# Altium schematic symbol library 原理图.SchLib: 99 symbols
Pins are listed as number, name and electrical type; pins without a type are passive.

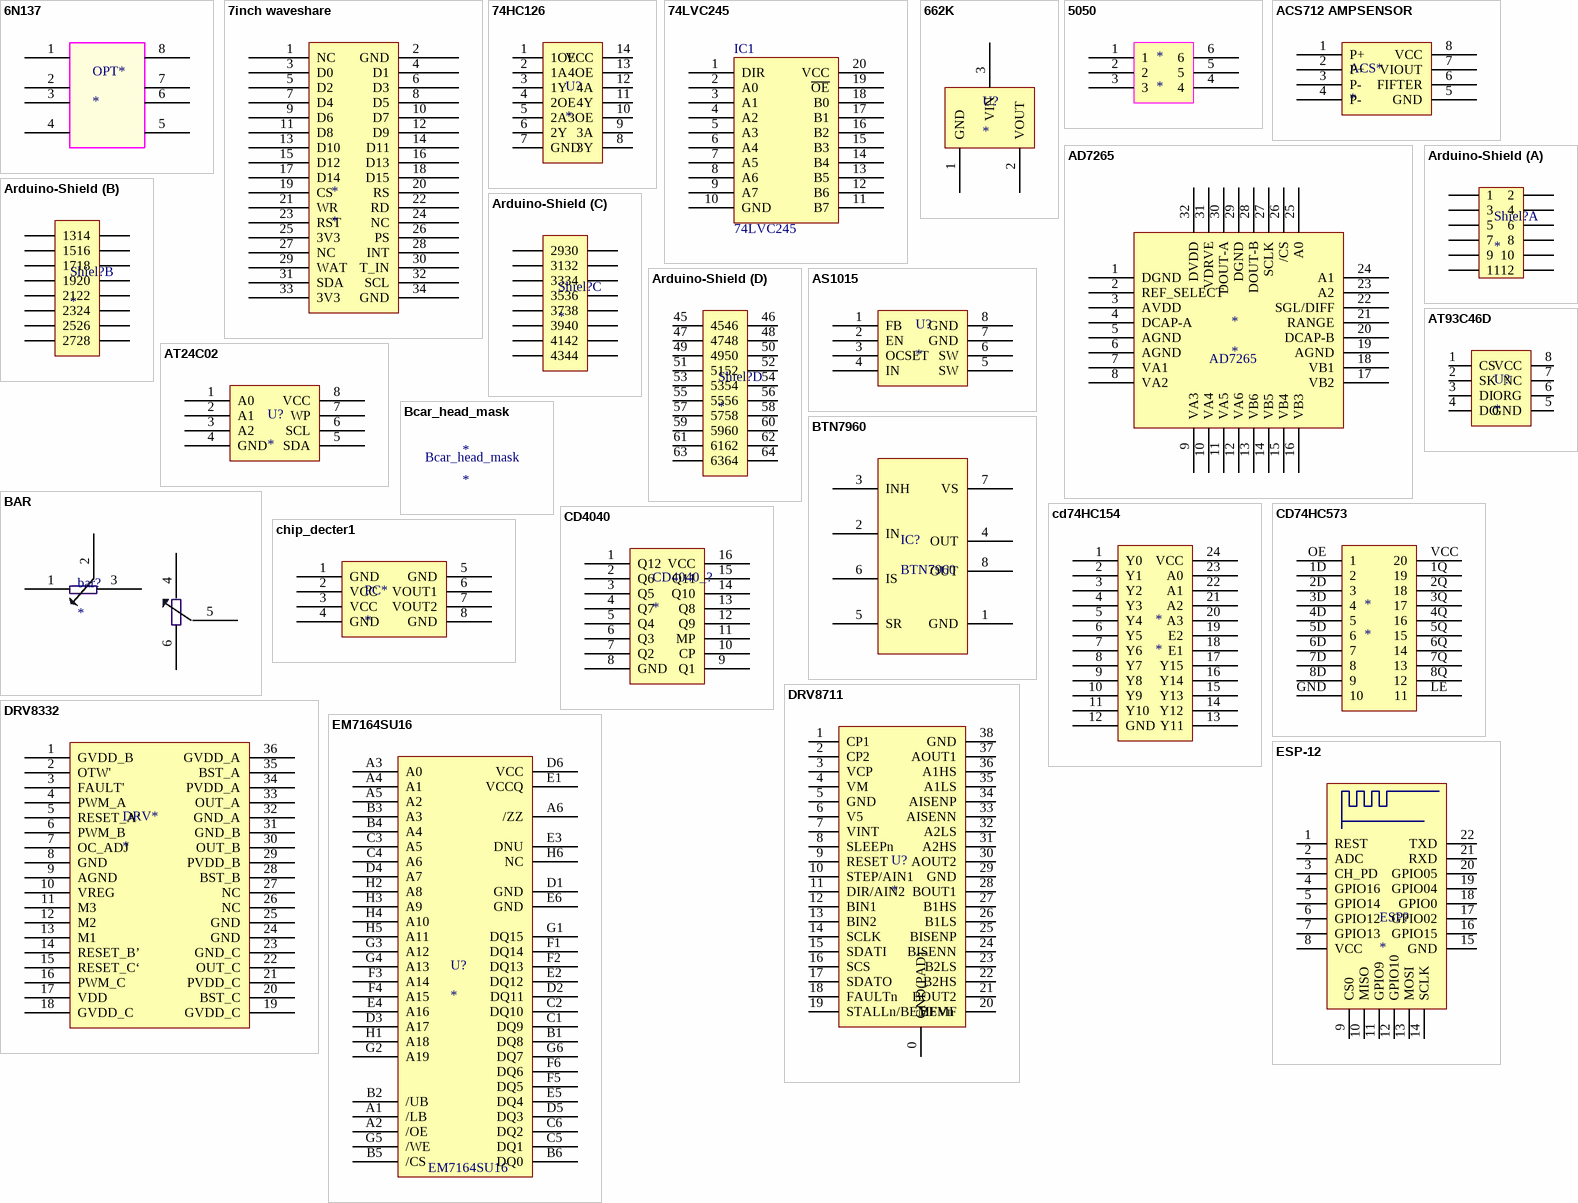
[diagram p0: symbols 6N137 to ESP-12]

## 6N137
designator OPT*
footprint SOIC1-8N ACS712
pins: 1 NC, 2 ANODE, 3 CATHODE, 4 NC, 5 GND, 6 V0, 7 VE, 8 VCC

## 7inch waveshare
designator *
footprint 7 inch waveshare
pins: 1 NC, 2 GND, 3 D0, 4 D1, 5 D2, 6 D3, 7 D4, 8 D5, 9 D6, 10 D7, 11 D8, 12 D9, 13 D10, 14 D11, 15 D12, 16 D13, 17 D14, 18 D15, 19 CS, 20 RS, 21 WR, 22 RD, 23 RST, 24 NC, 25 3V3 (power), 26 PS, 27 NC, 28 INT, 29 WAT, 30 T_IN, 31 SDA, 32 SCL, 33 3V3 (power), 34 GND

## 74HC126
designator U?
footprint SOP127P600-8N 74HC126
pins: 1 1OE, 2 1A, 3 1Y, 4 2OE, 5 2A, 6 2Y, 7 GND, 8 3Y, 9 3A, 10 3OE, 11 4Y, 12 4A, 13 4OE, 14 VCC

## 74LVC245
designator IC1
footprint 74LVC245 TSSOP
footprint SOIC 20N (SOIC, 20-Leads, Body 12.80x7.50mm, Pitch 1.27mm, IPC Medium Density)
pins: 1 DIR, 2 A0, 3 A1, 4 A2, 5 A3, 6 A4, 7 A5, 8 A6, 9 A7, 10 GND, 11 B7, 12 B6, 13 B5, 14 B4, 15 B3, 16 B2, 17 B1, 18 B0, 19 ~{OE}, 20 VCC

## 662K
designator U?
footprint SOT23127P600-8N 662K
pins: 1 GND, 2 VOUT, 3 VIN

## 5050
designator *
footprint 5050
pins: 1, 2, 3, 4, 5, 6

## ACS712 AMPSENSOR
designator ACS*
footprint SOIC1-8N ACS712
pins: 1 P+, 2 P+, 3 P-, 4 P-, 5 GND, 6 FIFTER, 7 VIOUT, 8 VCC

## AD7265
designator *
pins: 1 DGND, 2 REF_SELECT, 3 AVDD, 4 DCAP-A, 5 AGND, 6 AGND, 7 VA1, 8 VA2, 9 VA3, 10 VA4, 11 VA5, 12 VA6, 13 VB6, 14 VB5, 15 VB4, 16 VB3, 17 VB2, 18 VB1, 19 AGND, 20 DCAP-B, 21 RANGE, 22 SGL/DIFF, 23 A2, 24 A1, 25 A0, 26 /CS, 27 SCLK, 28 DOUT-B, 29 DGND, 30 DOUT-A, 31 VDRVE, 32 DVDD

## Arduino-Shield
designator Shiel?
footprint SMT-B-Shield
footprint Arduino-Shield
part A pins: 1, 2, 3, 4, 5, 6, 7, 8, 9, 10, 11, 12
part B pins: 13, 14, 15, 16, 17, 18, 19, 20, 21, 22, 23, 24, 25, 26, 27, 28
part C pins: 29, 30, 31, 32, 33, 34, 35, 36, 37, 38, 39, 40, 41, 42, 43, 44
part D pins: 45, 46, 47, 48, 49, 50, 51, 52, 53, 54, 55, 56, 57, 58, 59, 60, 61, 62, 63, 64

## AS1015
designator U?
footprint SOIC-8 (IOS1540\1)
pins: 1 FB, 2 EN, 3 OCSET, 4 IN, 5 SW, 6 SW, 7 GND, 8 GND

## AT24C02
designator U?
footprint IR2104
pins: 1 A0, 2 A1, 3 A2, 4 GND, 5 SDA, 6 SCL, 7 WP, 8 VCC

## AT93C46D
designator U?
footprint TSOP65P640X120-8N-AT93C46D (TSOP, 8-Leads, Body 3.00x4.40mm, Pitch 0.65mm, IPC Medium Density)
pins: 1 CS, 2 SK, 3 DI, 4 DO, 5 GND, 6 ORG, 7 NC, 8 VCC

## BAR
designator bar?
footprint bar
pins: 1, 2, 3, 4, 5, 6

## Bcar_head_mask
designator *
footprint Bcar_head_mask

## BTN7960
designator IC?
pins: 1 GND, 2 IN, 3 INH, 4 OUT, 5 SR, 6 IS, 7 VS, 8 OUT

## cd74HC154
designator *
footprint cd74hc154
pins: 1 Y0, 2 Y1, 3 Y2, 4 Y3, 5 Y4, 6 Y5, 7 Y6, 8 Y7, 9 Y8, 10 Y9, 11 Y10, 12 GND, 13 Y11, 14 Y12, 15 Y13, 16 Y14, 17 Y15, 18 E1, 19 E2, 20 A3, 21 A2, 22 A1, 23 A0, 24 VCC

## CD74HC573
designator *
footprint cd74hc573; pin to pad 1D>2 1Q>19 2D>3 2Q>18 3D>4 3Q>17 4D>5 4Q>16 5D>6 5Q>15 6D>7 6Q>14 7D>8 7Q>13 8D>9 8Q>12 GND>10 LE>11 OE>1 VCC>20
pins: 1D 2, 1Q 19, 2D 3, 2Q 18, 3D 4, 3Q 17, 4D 5, 4Q 16, 5D 6, 5Q 15, 6D 7, 6Q 14, 7D 8, 7Q 13, 8D 9, 8Q 12, GND 10, LE 11, OE 1, VCC 20

## CD4040
designator CD4040_?
footprint SOIC-16
pins: 1 Q12, 2 Q6, 3 Q5, 4 Q7, 5 Q4, 6 Q3, 7 Q2, 8 GND, 9 Q1, 10 CP, 11 MP, 12 Q9, 13 Q8, 14 Q10, 15 Q11, 16 VCC

## chip_decter1
designator PC*
chips
footprint chip_detecter
pins: 1 GND, 2 VCC, 3 VCC, 4 GND, 5 GND, 6 VOUT1, 7 VOUT2, 8 GND

## DRV8332
designator DRV*
footprint SOP127P600-8N-DRV8332 (DRV8332)
pins: 1 GVDD_B, 2 OTW', 3 FAULT', 4 PWM_A, 5 RESET_A‘, 6 PWM_B, 7 OC_ADJ, 8 GND, 9 AGND, 10 VREG, 11 M3, 12 M2, 13 M1, 14 RESET_B’, 15 RESET_C‘, 16 PWM_C, 17 VDD, 18 GVDD_C, 19 GVDD_C, 20 BST_C, 21 PVDD_C, 22 OUT_C, 23 GND_C, 24 GND, 25 GND, 26 NC, 27 NC, 28 BST_B, 29 PVDD_B, 30 OUT_B, 31 GND_B, 32 GND_A, 33 OUT_A, 34 PVDD_A, 35 BST_A, 36 GVDD_A

## DRV8711
designator U?
footprint LC-HTSSOP-38
pins: 0 GND(PAD), 1 CP1, 2 CP2, 3 VCP, 4 VM, 5 GND, 6 V5, 7 VINT, 8 SLEEPn, 9 RESET, 10 STEP/AIN1, 11 DIR/AIN2, 12 BIN1, 13 BIN2, 14 SCLK, 15 SDATI, 16 SCS, 17 SDATO, 18 FAULTn, 19 STALLn/BEMFVn, 20 BEMF, 21 BOUT2, 22 B2HS, 23 B2LS, 24 BISENN, 25 BISENP, 26 B1LS, 27 B1HS, 28 BOUT1, 29 GND, 30 AOUT2, 31 A2HS, 32 A2LS, 33 AISENN, 34 AISENP, 35 A1LS, 36 A1HS, 37 AOUT1, 38 GND

## EM7164SU16
designator U?
footprint BGA48C75P6X8_598X698X104 (BGA, 48-Leads, Body 5.98x6.98mmx1.04mm, Pitch 0.75mm)
pins: A1 /LB, A2 /OE, A3 A0, A4 A1, A5 A2, A6 /ZZ, B1 DQ8, B2 /UB, B3 A3, B4 A4, B5 /CS, B6 DQ0, C1 DQ9, C2 DQ10, C3 A5, C4 A6, C5 DQ1, C6 DQ2, D1 GND, D2 DQ11, D3 A17, D4 A7, D5 DQ3, D6 VCC, E1 VCCQ, E2 DQ12, E3 DNU, E4 A16, E5 DQ4, E6 GND, F1 DQ14, F2 DQ13, F3 A14, F4 A15, F5 DQ5, F6 DQ6, G1 DQ15, G2 A19, G3 A12, G4 A13, G5 /WE, G6 DQ7, H1 A18, H2 A8, H3 A9, H4 A10, H5 A11, H6 NC

## ESP-12
designator ESP?
footprint ESP-12
pins: 1 REST, 2 ADC, 3 CH_PD, 4 GPIO16, 5 GPIO14, 6 GPIO12, 7 GPIO13, 8 VCC, 9 CS0, 10 MISO, 11 GPIO9, 12 GPIO10, 13 MOSI, 14 SCLK, 15 GND, 16 GPIO15, 17 GPIO02, 18 GPIO0, 19 GPIO04, 20 GPIO05, 21 RXD, 22 TXD

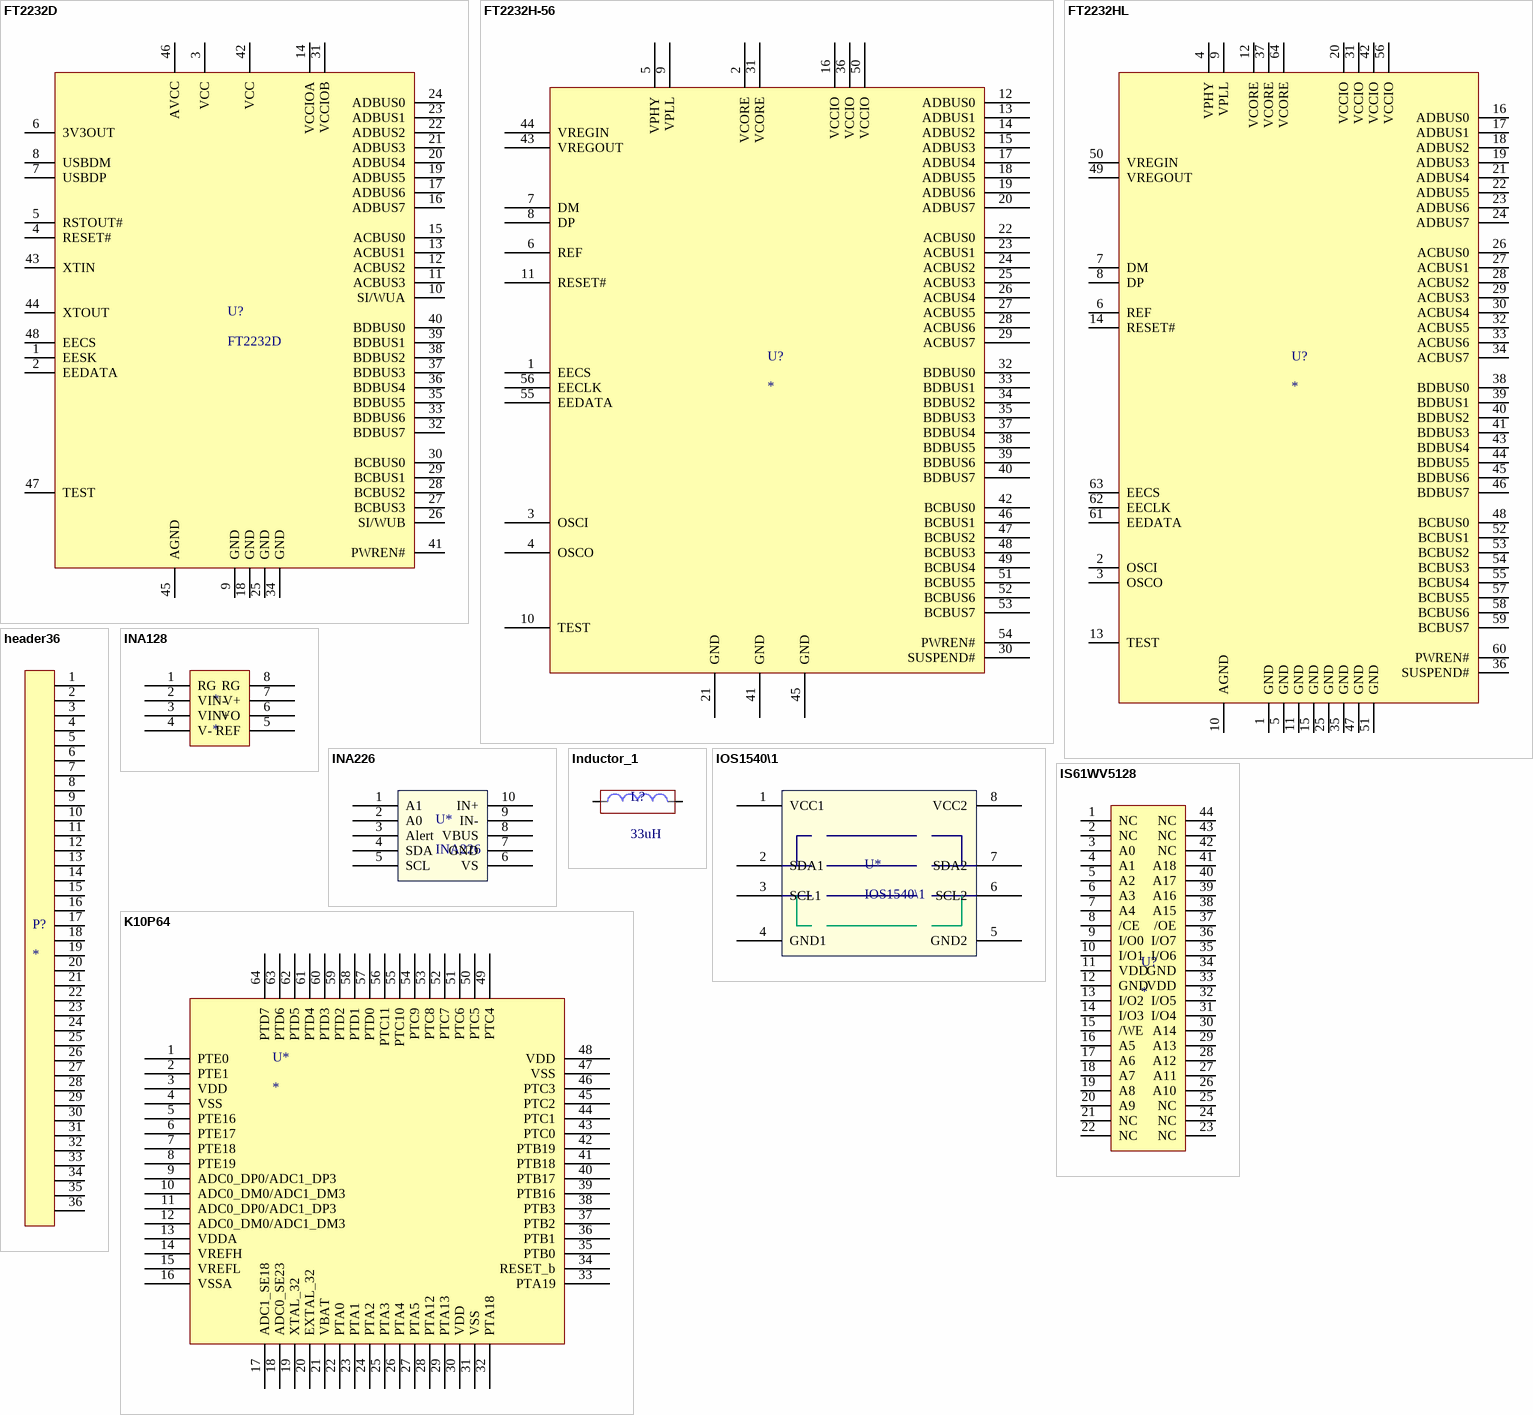
[diagram p1: symbols FT2232D to K10P64]

## FT2232D
designator U?
footprint TSQFP50P900X900X160-48N (TSQFP, 48-Leads,FTDI FT2232D)
pins: 1 EESK, 2 EEDATA, 3 VCC, 4 RESET#, 5 RSTOUT#, 6 3V3OUT, 7 USBDP, 8 USBDM, 9 GND, 10 SI/WUA, 11 ACBUS3, 12 ACBUS2, 13 ACBUS1, 14 VCCIOA, 15 ACBUS0, 16 ADBUS7, 17 ADBUS6, 18 GND, 19 ADBUS5, 20 ADBUS4, 21 ADBUS3, 22 ADBUS2, 23 ADBUS1, 24 ADBUS0, 25 GND, 26 SI/WUB, 27 BCBUS3, 28 BCBUS2, 29 BCBUS1, 30 BCBUS0, 31 VCCIOB, 32 BDBUS7, 33 BDBUS6, 34 GND, 35 BDBUS5, 36 BDBUS4, 37 BDBUS3, 38 BDBUS2, 39 BDBUS1, 40 BDBUS0, 41 PWREN#, 42 VCC, 43 XTIN, 44 XTOUT, 45 AGND, 46 AVCC, 47 TEST, 48 EECS

## FT2232H-56
designator U?
footprint QFN50P800X800X90_HS-57N (QFN, 56-Leads, Body 8.00x8.00mm, Pitch 0.50mm, Thermal Pad 6.10x6.10mm, IPC Medium Density)
pins: 1 EECS, 2 VCORE, 3 OSCI, 4 OSCO, 5 VPHY, 6 REF, 7 DM, 8 DP, 9 VPLL, 10 TEST, 11 RESET#, 12 ADBUS0, 13 ADBUS1, 14 ADBUS2, 15 ADBUS3, 16 VCCIO, 17 ADBUS4, 18 ADBUS5, 19 ADBUS6, 20 ADBUS7, 21 GND, 22 ACBUS0, 23 ACBUS1, 24 ACBUS2, 25 ACBUS3, 26 ACBUS4, 27 ACBUS5, 28 ACBUS6, 29 ACBUS7, 30 SUSPEND#, 31 VCORE, 32 BDBUS0, 33 BDBUS1, 34 BDBUS2, 35 BDBUS3, 36 VCCIO, 37 BDBUS4, 38 BDBUS5, 39 BDBUS6, 40 BDBUS7, 41 GND, 42 BCBUS0, 43 VREGOUT, 44 VREGIN, 45 GND, 46 BCBUS1, 47 BCBUS2, 48 BCBUS3, 49 BCBUS4, 50 VCCIO, 51 BCBUS5, 52 BCBUS6, 53 BCBUS7, 54 PWREN#, 55 EEDATA, 56 EECLK

## FT2232HL
designator U?
footprint LQFP-64 (TSQFP, 64-Leads, K10P64M72)
pins: 1 GND, 2 OSCI, 3 OSCO, 4 VPHY, 5 GND, 6 REF, 7 DM, 8 DP, 9 VPLL, 10 AGND, 11 GND, 12 VCORE, 13 TEST, 14 RESET#, 15 GND, 16 ADBUS0, 17 ADBUS1, 18 ADBUS2, 19 ADBUS3, 20 VCCIO, 21 ADBUS4, 22 ADBUS5, 23 ADBUS6, 24 ADBUS7, 25 GND, 26 ACBUS0, 27 ACBUS1, 28 ACBUS2, 29 ACBUS3, 30 ACBUS4, 31 VCCIO, 32 ACBUS5, 33 ACBUS6, 34 ACBUS7, 35 GND, 36 SUSPEND#, 37 VCORE, 38 BDBUS0, 39 BDBUS1, 40 BDBUS2, 41 BDBUS3, 42 VCCIO, 43 BDBUS4, 44 BDBUS5, 45 BDBUS6, 46 BDBUS7, 47 GND, 48 BCBUS0, 49 VREGOUT, 50 VREGIN, 51 GND, 52 BCBUS1, 53 BCBUS2, 54 BCBUS3, 55 BCBUS4, 56 VCCIO, 57 BCBUS5, 58 BCBUS6, 59 BCBUS7, 60 PWREN#, 61 EEDATA, 62 EECLK, 63 EECS, 64 VCORE

## header36
designator P?
footprint FFC/SM0.5-2H36 (Connector; FH12 Series; 36 Position; 0.5mm Spaced Bottom Contact)
pins: 1, 2, 3, 4, 5, 6, 7, 8, 9, 10, 11, 12, 13, 14, 15, 16, 17, 18, 19, 20, 21, 22, 23, 24, 25, 26, 27, 28, 29, 30, 31, 32, 33, 34, 35, 36

## INA128
designator *
pins: 1 RG, 2 VIN-, 3 VIN+, 4 V-, 5 REF, 6 VO, 7 V+, 8 RG

## INA226
designator U*
footprint VSSOP-10 (INA226)
pins: 1 A1, 2 A0, 3 Alert, 4 SDA, 5 SCL, 6 VS, 7 GND, 8 VBUS, 9 IN-, 10 IN+

## Inductor_1
designator L?, comment 33uH
Inductor
footprint L-SMD-7
pins: 1, 2

## IOS1540\1
designator U*
footprint SOIC-8 (IOS1540\1)
pins: 1 VCC1, 2 SDA1, 3 SCL1, 4 GND1, 5 GND2, 6 SCL2, 7 SDA2, 8 VCC2

## IS61WV5128
designator U?
footprint SOP127P600-8N IS61WV5128 (IS61WV5128)
pins: 1 NC, 2 NC, 3 A0, 4 A1, 5 A2, 6 A3, 7 A4, 8 /CE, 9 I/O0, 10 I/O1, 11 VDD, 12 GND, 13 I/O2, 14 I/O3, 15 /WE, 16 A5, 17 A6, 18 A7, 19 A8, 20 A9, 21 NC, 22 NC, 23 NC, 24 NC, 25 NC, 26 A10, 27 A11, 28 A12, 29 A13, 30 A14, 31 I/O4, 32 I/O5, 33 VDD, 34 GND, 35 I/O6, 36 I/O7, 37 /OE, 38 A15, 39 A16, 40 A17, 41 A18, 42 NC, 43 NC, 44 NC

## K10P64
designator U*
MCU
footprint K10P64M72 LQFP (TSQFP, 64-Leads, K10P64M72)
pins: 1 PTE0, 2 PTE1, 3 VDD, 4 VSS, 5 PTE16, 6 PTE17, 7 PTE18, 8 PTE19, 9 ADC0_DP0/ADC1_DP3, 10 ADC0_DM0/ADC1_DM3, 11 ADC0_DP0/ADC1_DP3, 12 ADC0_DM0/ADC1_DM3, 13 VDDA, 14 VREFH, 15 VREFL, 16 VSSA, 17 ADC1_SE18, 18 ADC0_SE23, 19 XTAL_32, 20 EXTAL_32, 21 VBAT, 22 PTA0, 23 PTA1, 24 PTA2, 25 PTA3, 26 PTA4, 27 PTA5, 28 PTA12, 29 PTA13, 30 VDD, 31 VSS, 32 PTA18, 33 PTA19, 34 RESET_b, 35 PTB0, 36 PTB1, 37 PTB2, 38 PTB3, 39 PTB16, 40 PTB17, 41 PTB18, 42 PTB19, 43 PTC0, 44 PTC1, 45 PTC2, 46 PTC3, 47 VSS, 48 VDD, 49 PTC4, 50 PTC5, 51 PTC6, 52 PTC7, 53 PTC8, 54 PTC9, 55 PTC10, 56 PTC11, 57 PTD0, 58 PTD1, 59 PTD2, 60 PTD3, 61 PTD4, 62 PTD5, 63 PTD6, 64 PTD7

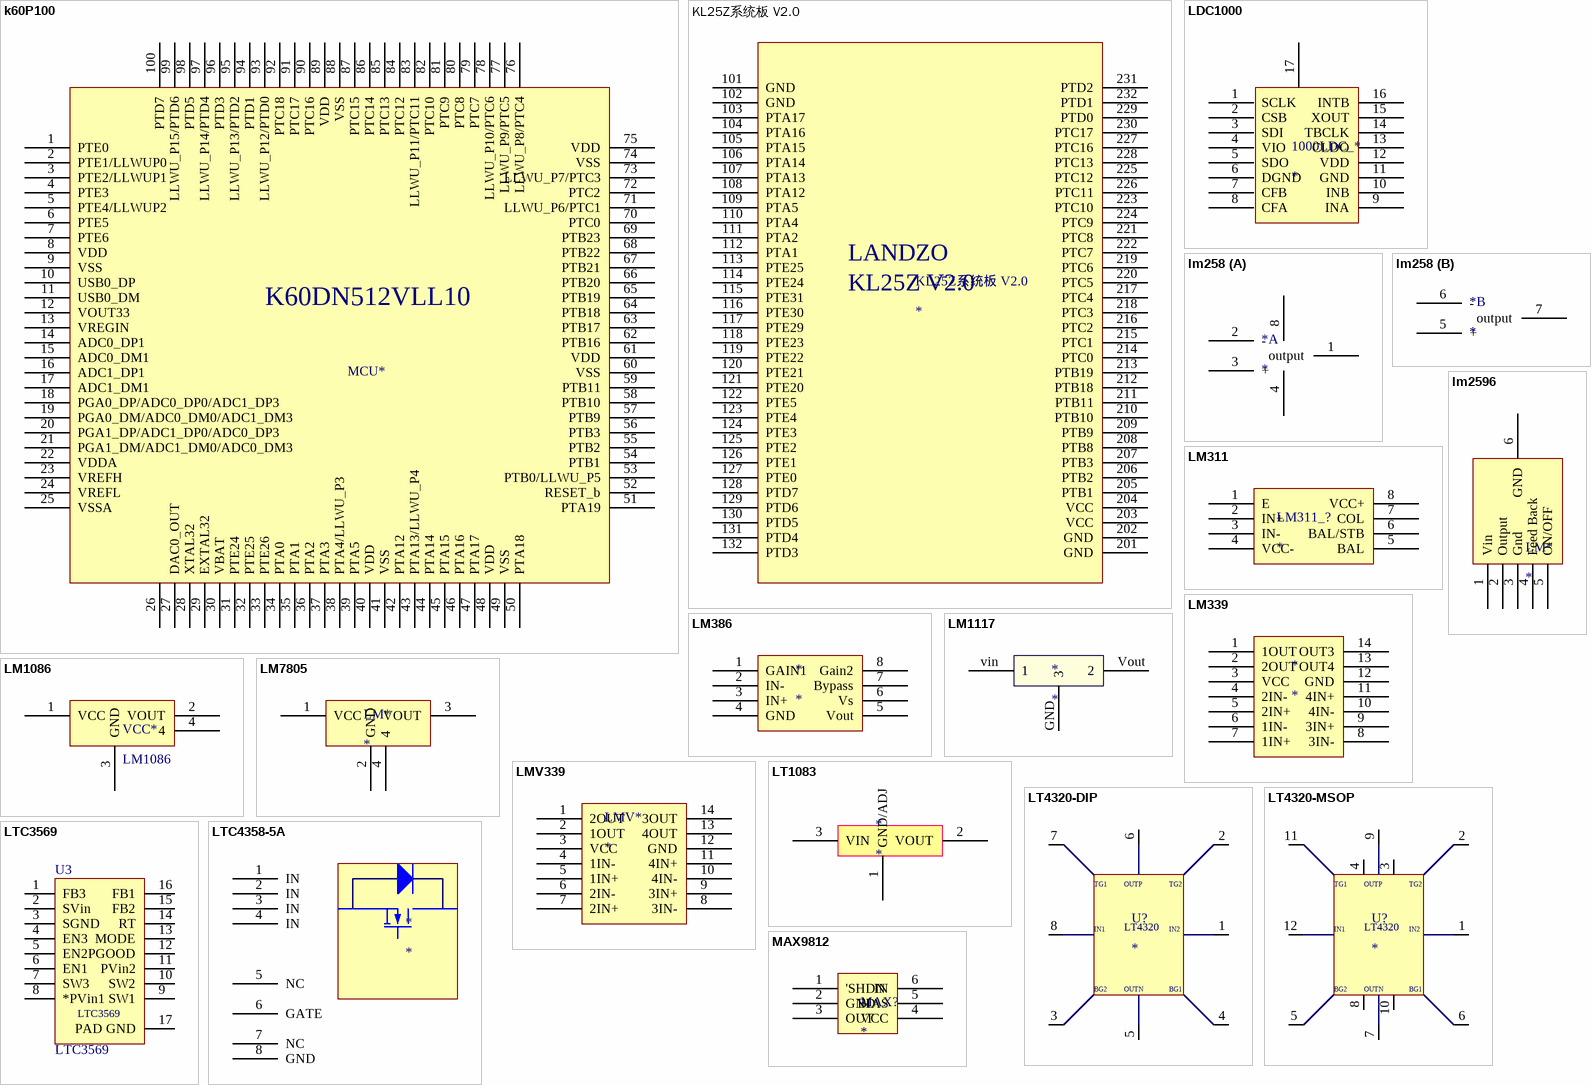
[diagram p2: symbols k60P100 to MAX9812]

## k60P100
designator MCU*  (value not drawn)
footprint LQFP100 (SQFP, 100-Leads, Body 14.00x14.00mm, Pitch 0.50mm, IPC Medium Density)
pins: 1 PTE0, 2 PTE1/LLWUP0, 3 PTE2/LLWUP1, 4 PTE3, 5 PTE4/LLWUP2, 6 PTE5, 7 PTE6, 8 VDD, 9 VSS, 10 USB0_DP, 11 USB0_DM, 12 VOUT33, 13 VREGIN, 14 ADC0_DP1, 15 ADC0_DM1, 16 ADC1_DP1, 17 ADC1_DM1, 18 PGA0_DP/ADC0_DP0/ADC1_DP3, 19 PGA0_DM/ADC0_DM0/ADC1_DM3, 20 PGA1_DP/ADC1_DP0/ADC0_DP3, 21 PGA1_DM/ADC1_DM0/ADC0_DM3, 22 VDDA, 23 VREFH, 24 VREFL, 25 VSSA, 26 VREF_OUT/CMP1_IN5CMP0_IN5/ADC1_SE18, 27 DAC0_OUT, 28 XTAL32, 29 EXTAL32, 30 VBAT, 31 PTE24, 32 PTE25, 33 PTE26, 34 PTA0, 35 PTA1, 36 PTA2, 37 PTA3, 38 PTA4/LLWU_P3, 39 PTA5, 40 VDD, 41 VSS, 42 PTA12, 43 PTA13/LLWU_P4, 44 PTA14, 45 PTA15, 46 PTA16, 47 PTA17, 48 VDD, 49 VSS, 50 PTA18, 51 PTA19, 52 RESET_b, 53 PTB0/LLWU_P5, 54 PTB1, 55 PTB2, 56 PTB3, 57 PTB9, 58 PTB10, 59 PTB11, 60 VSS, 61 VDD, 62 PTB16, 63 PTB17, 64 PTB18, 65 PTB19, 66 PTB20, 67 PTB21, 68 PTB22, 69 PTB23, 70 PTC0, 71 LLWU_P6/PTC1, 72 PTC2, 73 LLWU_P7/PTC3, 74 VSS, 75 VDD, 76 LLWU_P8/PTC4, 77 LLWU_P9/PTC5, 78 LLWU_P10/PTC6, 79 PTC7, 80 PTC8, 81 PTC9, 82 PTC10, 83 LLWU_P11/PTC11, 84 PTC12, 85 PTC13, 86 PTC14, 87 PTC15, 88 VSS, 89 VDD, 90 PTC16, 91 PTC17, 92 PTC18, 93 LLWU_P12/PTD0, 94 PTD1, 95 LLWU_P13/PTD2, 96 PTD3, 97 LLWU_P14/PTD4, 98 PTD5, 99 LLWU_P15/PTD6, 100 PTD7
text: K60DN512VLL10

## KL25Z系统板 V2.0
designator KL25Z系统板 V2.0
footprint KL25 V2.0系统板
pins: 101 GND, 102 GND, 103 PTA17, 104 PTA16, 105 PTA15, 106 PTA14, 107 PTA13, 108 PTA12, 109 PTA5, 110 PTA4, 111 PTA2, 112 PTA1, 113 PTE25, 114 PTE24, 115 PTE31, 116 PTE30, 117 PTE29, 118 PTE23, 119 PTE22, 120 PTE21, 121 PTE20, 122 PTE5, 123 PTE4, 124 PTE3, 125 PTE2, 126 PTE1, 127 PTE0, 128 PTD7, 129 PTD6, 130 PTD5, 131 PTD4, 132 PTD3, 201 GND, 202 GND, 203 VCC, 204 VCC, 205 PTB1, 206 PTB2, 207 PTB3, 208 PTB8, 209 PTB9, 210 PTB10, 211 PTB11, 212 PTB18, 213 PTB19, 214 PTC0, 215 PTC1, 216 PTC2, 217 PTC4, 218 PTC3, 219 PTC6, 220 PTC5, 221 PTC8, 222 PTC7, 223 PTC10, 224 PTC9, 225 PTC12, 226 PTC11, 227 PTC16, 228 PTC13, 229 PTD0, 230 PTC17, 231 PTD2, 232 PTD1
text: LANDZO; KL25Z V2.0

## LDC1000
designator 1000LDC_*
footprint LDC1000 (QFN, 16-Leads, Body 5.00x4.00mm, Pitch 0.50mm/0.00mm, Thermal Pad 3.75x0.00mm, IPC Medium Density)
pins: 1 SCLK, 2 CSB, 3 SDI, 4 VIO, 5 SDO, 6 DGND, 7 CFB, 8 CFA, 9 INA, 10 INB, 11 GND, 12 VDD, 13 CLDO, 14 TBCLK, 15 XOUT, 16 INTB, 17 GND

## lm258
designator *
footprint SOP65P530X265-8N (SOP, 8-Leads, Body 3.00x3.20mm, Pitch 0.65mm, IPC Medium Density)
part A pins: 1 output, 2 -, 3 +, 4 GND, 8 VCC
part B pins: 5 +, 6 -, 7 output

## LM311
designator LM311_?
footprint SOIC1-8N ACS712
pins: 1 E, 2 IN+, 3 IN-, 4 VCC-, 5 BAL, 6 BAL/STB, 7 COL, 8 VCC+

## LM339
designator *
pins: 1 1OUT, 2 2OUT, 3 VCC, 4 2IN-, 5 2IN+, 6 1IN-, 7 1IN+, 8 3IN-, 9 3IN+, 10 4IN-, 11 4IN+, 12 GND, 13 OUT4, 14 OUT3

## LM386
designator *
footprint SOIC lm386 (SOIC, 8-Leads, Body 4.90x3.90mm, Pitch 1.27mm, IPC Medium Density)
footprint sop lm386 (TSOP, 8-Leads, Body 3.00x3.00mm, Pitch 0.65mm, IPC Medium Density)
pins: 1 GAIN1, 2 IN-, 3 IN+, 4 GND, 5 Vout, 6 Vs, 7 Bypass, 8 Gain2

## LM1086
designator VCC*
footprint DPAK LM2940 (D2-PAK, 4-Pads, Body 7.93x8.69mm (max), IPC Medium Density); pin to pad 1>3 3>1
pins: 1 VCC, 2 VOUT, 3 GND, 4

## LM1117
designator *
footprint lm1117; pin to pad GND>3 vin>1 Vout>2
pins: GND 3, vin 1, Vout 2

## lm2596
designator LM*
footprint lm2596
pins: 1 Vin, 2 Output, 3 Gnd, 4 Feed Back, 5 ON/OFF, 6 GND

## LM7805
designator LM*
footprint DPAK LM2940 (D2-PAK, 4-Pads, Body 7.93x8.69mm (max), IPC Medium Density)
pins: 1 VCC, 2 GND, 3 VOUT, 4

## LMV339
designator LMV*
footprint LMV339 TSSOP14 (TSOP, 14-Leads, Body 5.00x4.40mm, Pitch 0.65mm, IPC Medium Density)
footprint SOIC LMV339
pins: 1 2OUT, 2 1OUT, 3 VCC, 4 1IN-, 5 1IN+, 6 2IN-, 7 2IN+, 8 3IN-, 9 3IN+, 10 4IN-, 11 4IN+, 12 GND, 13 4OUT, 14 3OUT

## LT1083
designator *
footprint LT1083
pins: 1 GND/ADJ, 2 VOUT, 3 VIN

## LT4320-DIP
designator U?
footprint DIP-8
pins: 1, 2, 3, 4, 5, 6, 7, 8
text: TG1; OUTP; TG2; IN1; LT4320; IN2; BG2; OUTN; BG1

## LT4320-MSOP
designator U?
footprint LT4320-MSOP12
pins: 1, 2, 3 NC, 4 NC, 5, 6, 7, 8 NC, 9, 10 NC, 11, 12
text: TG1; OUTP; TG2; IN1; LT4320; IN2; BG2; OUTN; BG1

## LTC3569
designator U3
footprint SOP127P600-16N (LTC3569)
pins: 1 FB3, 2 SVin, 3 SGND, 4 EN3, 5 EN2, 6 EN1, 7 SW3, 8 *PVin1, 9 SW1, 10 SW2, 11 PVin2, 12 PGOOD, 13 MODE, 14 RT, 15 FB2, 16 FB1, 17 PAD GND

## LTC4358-5A
designator *
pins: 1 IN, 2 IN, 3 IN, 4 IN, 5 NC, 6 GATE, 7 NC, 8 GND

## MAX9812
designator MAX?
footprint SOT65P210X110-6N MAX9812 (SOT23, 6-Leads, Body 2.00x2.10mm, Pitch 0.65mm, IPC Medium Density)
pins: 1 'SHDN, 2 GND, 3 OUT, 4 VCC, 5 BIAS, 6 IN

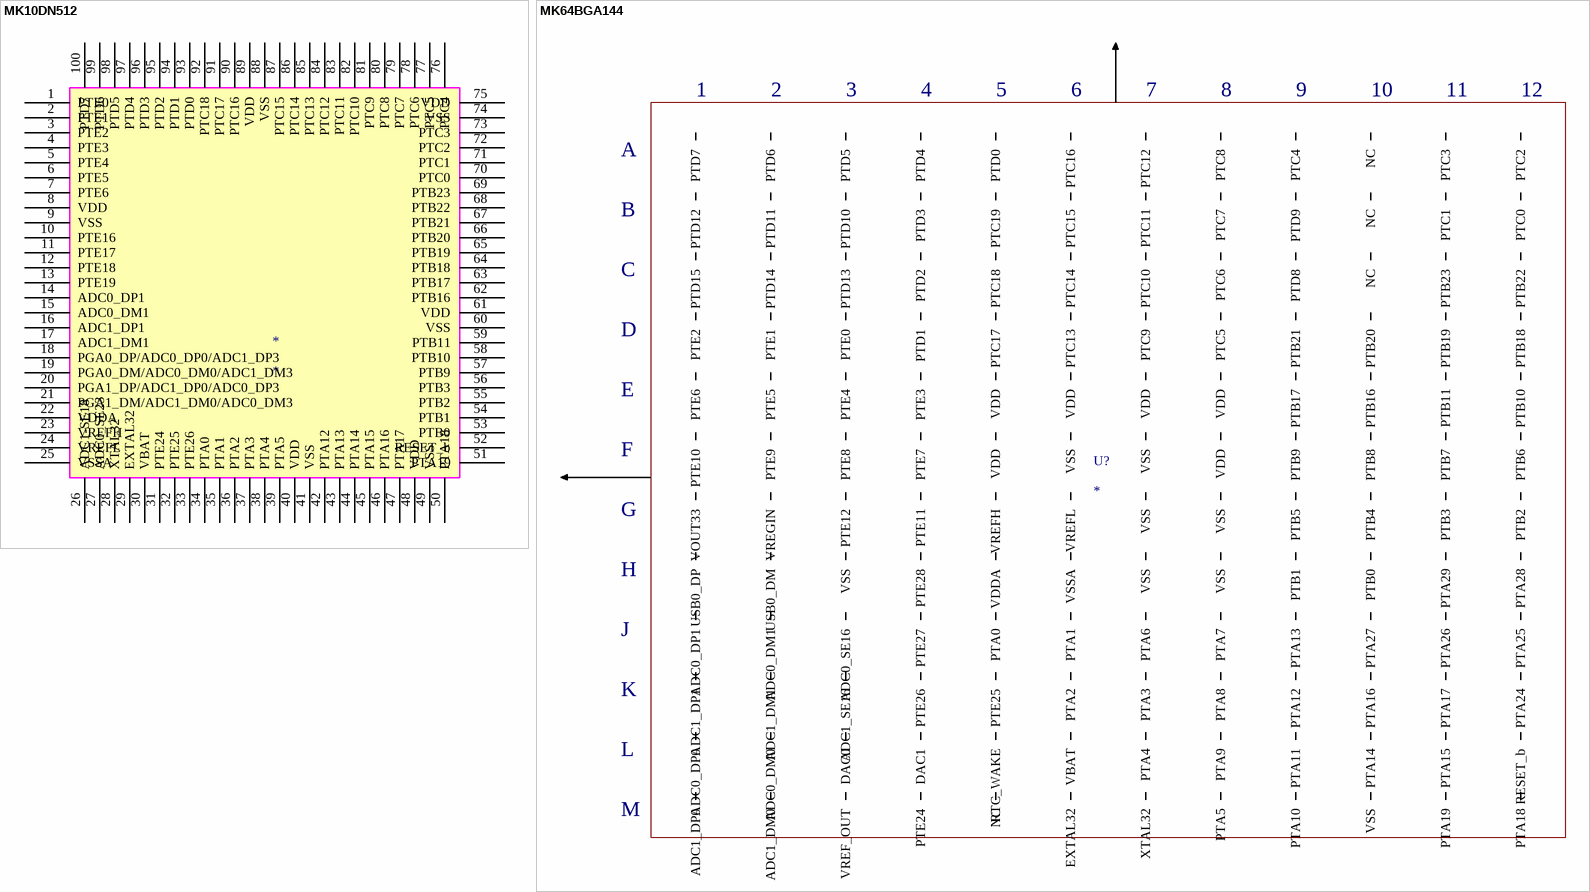
[diagram p3: symbols MK10DN512 to MK64BGA144]

## MK10DN512
designator *
footprint MK10DN512VL10(DIP)
footprint MK60DN512LV110
pins: 1 PTE0, 2 PTE1, 3 PTE2, 4 PTE3, 5 PTE4, 6 PTE5, 7 PTE6, 8 VDD, 9 VSS, 10 PTE16, 11 PTE17, 12 PTE18, 13 PTE19, 14 ADC0_DP1, 15 ADC0_DM1, 16 ADC1_DP1, 17 ADC1_DM1, 18 PGA0_DP/ADC0_DP0/ADC1_DP3, 19 PGA0_DM/ADC0_DM0/ADC1_DM3, 20 PGA1_DP/ADC1_DP0/ADC0_DP3, 21 PGA1_DM/ADC1_DM0/ADC0_DM3, 22 VDDA, 23 VREFH, 24 VREFL, 25 VSSA, 26 ADC1-SE18, 27 ADC0_SE23, 28 XTAL32, 29 EXTAL32, 30 VBAT, 31 PTE24, 32 PTE25, 33 PTE26, 34 PTA0, 35 PTA1, 36 PTA2, 37 PTA3, 38 PTA4, 39 PTA5, 40 VDD, 41 VSS, 42 PTA12, 43 PTA13, 44 PTA14, 45 PTA15, 46 PTA16, 47 PTA17, 48 VDD, 49 VSS, 50 PTA18, 51 PTA19, 52 RESET_b, 53 PTB0, 54 PTB1, 55 PTB2, 56 PTB3, 57 PTB9, 58 PTB10, 59 PTB11, 60 VSS, 61 VDD, 62 PTB16, 63 PTB17, 64 PTB18, 65 PTB19, 66 PTB20, 67 PTB21, 68 PTB22, 69 PTB23, 70 PTC0, 71 PTC1, 72 PTC2, 73 PTC3, 74 VSS, 75 VDD, 76 PTC4, 77 PTC5, 78 PTC6, 79 PTC7, 80 PTC8, 81 PTC9, 82 PTC10, 83 PTC11, 84 PTC12, 85 PTC13, 86 PTC14, 87 PTC15, 88 VSS, 89 VDD, 90 PTC16, 91 PTC17, 92 PTC18, 93 PTD0, 94 PTD1, 95 PTD2, 96 PTD3, 97 PTD4, 98 PTD5, 99 PTD6, 100 PTD7

## MK64BGA144
designator U?
footprint BGA144C100P12X12_1300X1300X161 (BGA, 144-Leads, Body 13.00x13.00mmx1.61mm, Pitch 1.00mm)
pins: A1 PTD7, A2 PTD6, A3 PTD5, A4 PTD4, A5 PTD0, A6 PTC16, A7 PTC12, A8 PTC8, A9 PTC4, A10 NC, A11 PTC3, A12 PTC2, B1 PTD12, B2 PTD11, B3 PTD10, B4 PTD3, B5 PTC19, B6 PTC15, B7 PTC11, B8 PTC7, B9 PTD9, B10 NC, B11 PTC1, B12 PTC0, C1 PTD15, C2 PTD14, C3 PTD13, C4 PTD2, C5 PTC18, C6 PTC14, C7 PTC10, C8 PTC6, C9 PTD8, C10 NC, C11 PTB23, C12 PTB22, D1 PTE2, D2 PTE1, D3 PTE0, D4 PTD1, D5 PTC17, D6 PTC13, D7 PTC9, D8 PTC5, D9 PTB21, D10 PTB20, D11 PTB19, D12 PTB18, E1 PTE6, E2 PTE5, E3 PTE4, E4 PTE3, E5 VDD, E6 VDD, E7 VDD, E8 VDD, E9 PTB17, E10 PTB16, E11 PTB11, E12 PTB10, F1 PTE10, F2 PTE9, F3 PTE8, F4 PTE7, F5 VDD, F6 VSS, F7 VSS, F8 VDD, F9 PTB9, F10 PTB8, F11 PTB7, F12 PTB6, G1 VOUT33, G2 VREGIN, G3 PTE12, G4 PTE11, G5 VREFH, G6 VREFL, G7 VSS, G8 VSS, G9 PTB5, G10 PTB4, G11 PTB3, G12 PTB2, H1 USB0_DP, H2 USB0_DM, H3 VSS, H4 PTE28, H5 VDDA, H6 VSSA, H7 VSS, H8 VSS, H9 PTB1, H10 PTB0, H11 PTA29, H12 PTA28, J1 ADC0_DP1, J2 ADC0_DM1, J3 ADC0_SE16, J4 PTE27, J5 PTA0, J6 PTA1, J7 PTA6, J8 PTA7, J9 PTA13, J10 PTA27, J11 PTA26, J12 PTA25, K1 ADC1_DP1, K2 ADC1_DM1, K3 ADC1_SE16, K4 PTE26, K5 PTE25, K6 PTA2, K7 PTA3, K8 PTA8, K9 PTA12, K10 PTA16, K11 PTA17, K12 PTA24, L1 ADC0_DP0, L2 ADC0_DM0, L3 DAC0, L4 DAC1, L5 RTC_WAKE, L6 VBAT, L7 PTA4, L8 PTA9, L9 PTA11, L10 PTA14, L11 PTA15, L12 RESET_b, M1 ADC1_DP0, M2 ADC1_DM0, M3 VREF_OUT, M4 PTE24, M5 NC, M6 EXTAL32, M7 XTAL32, M8 PTA5, M9 PTA10, M10 VSS, M11 PTA19, M12 PTA18
text: 1; 2; 3; 4; 5; 6; 7; 8; 9; 10; 11; 12; A; B; C; D; E; F; G; H; J; K; L; M

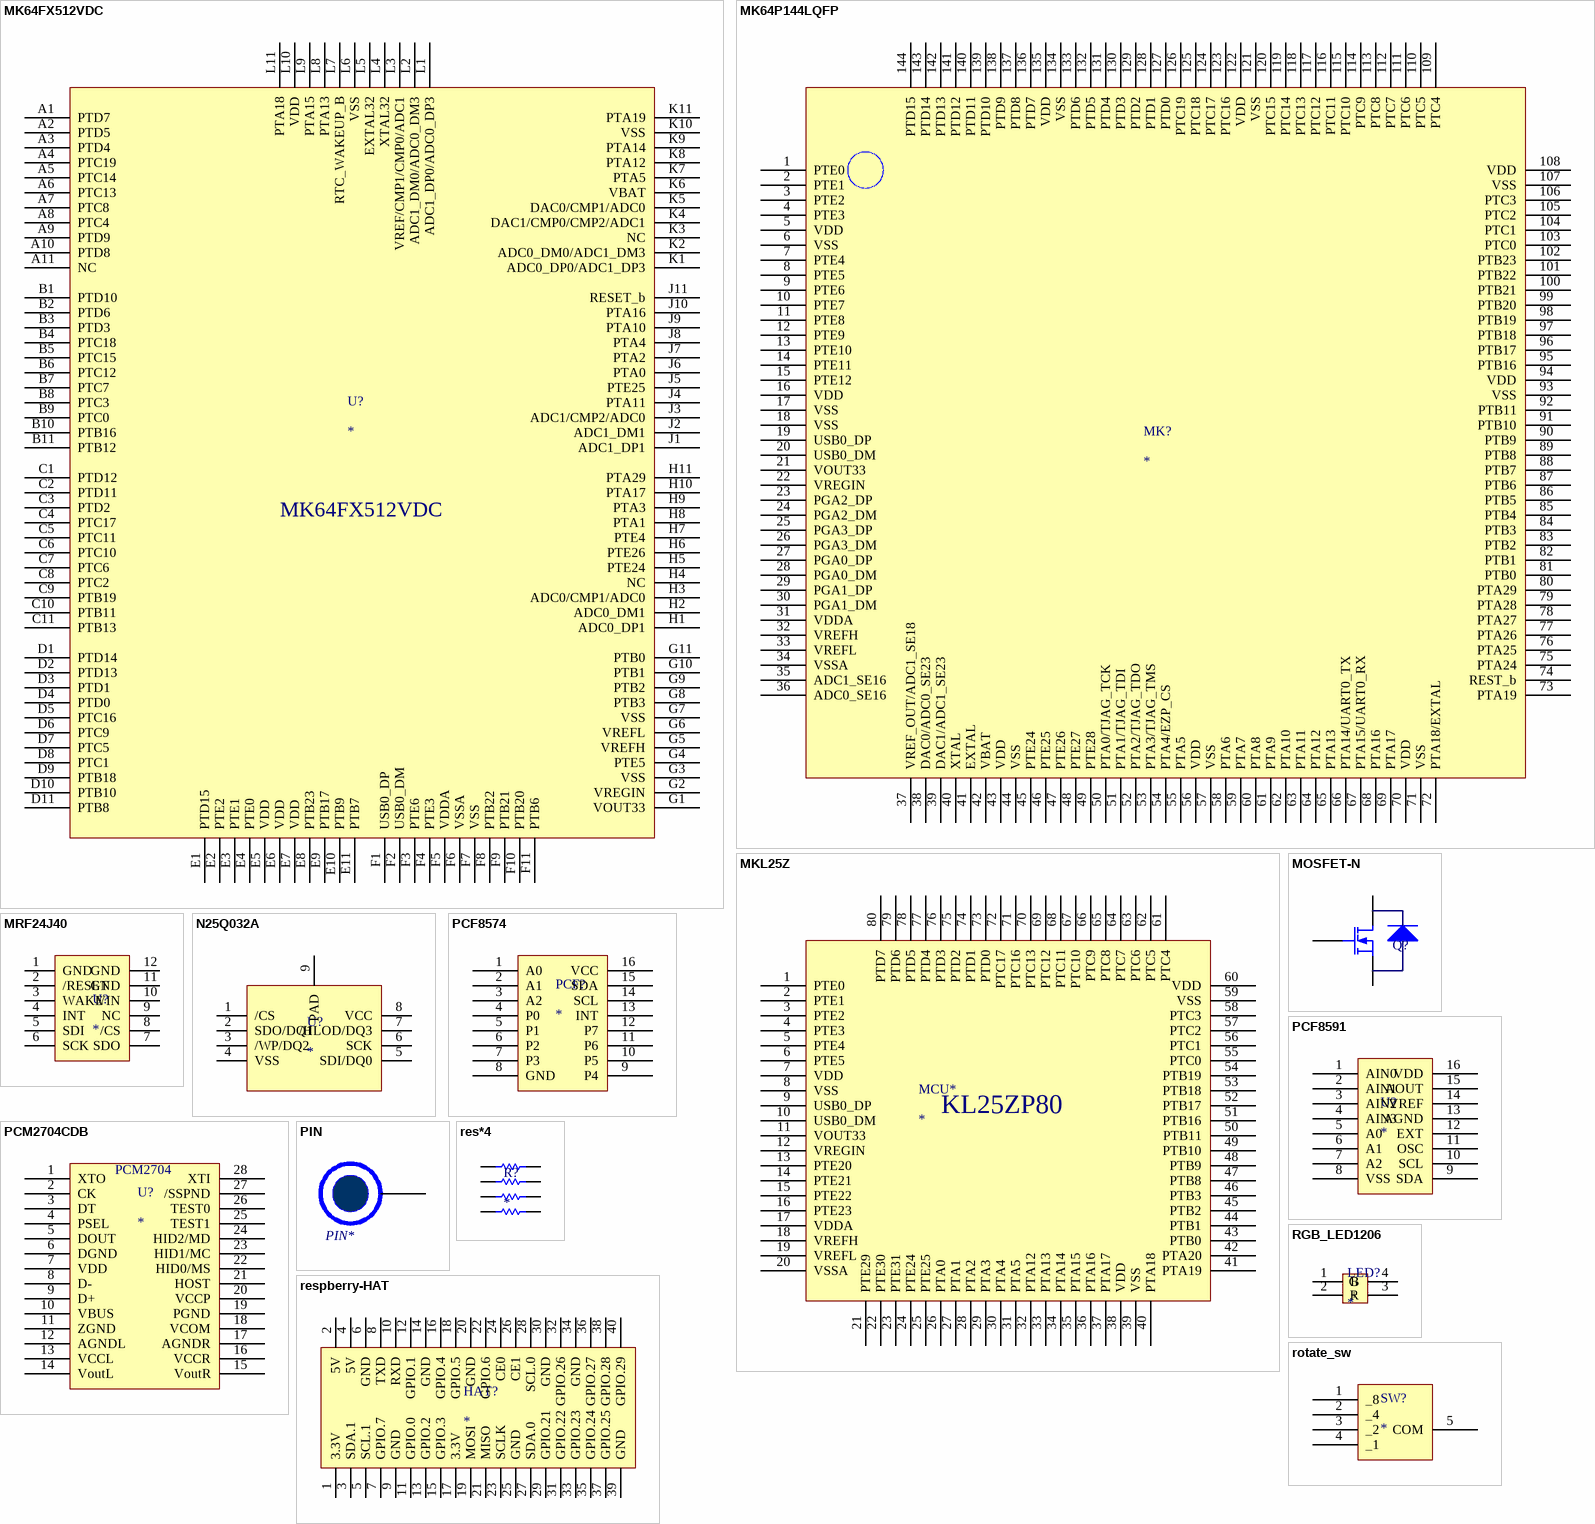
[diagram p4: symbols MK64FX512VDC to rotate_sw]

## MK64FX512VDC
designator U?
MK64FX512VDC
footprint BGA121C65P11X11_800X800X50 (BGA, 121-Leads, Body 8.00x8.00mmx0.50mm, Pitch 0.65mm)
pins: A1 PTD7, A2 PTD5, A3 PTD4, A4 PTC19, A5 PTC14, A6 PTC13, A7 PTC8, A8 PTC4, A9 PTD9, A10 PTD8, A11 NC, B1 PTD10, B2 PTD6, B3 PTD3, B4 PTC18, B5 PTC15, B6 PTC12, B7 PTC7, B8 PTC3, B9 PTC0, B10 PTB16, B11 PTB12, C1 PTD12, C2 PTD11, C3 PTD2, C4 PTC17, C5 PTC11, C6 PTC10, C7 PTC6, C8 PTC2, C9 PTB19, C10 PTB11, C11 PTB13, D1 PTD14, D2 PTD13, D3 PTD1, D4 PTD0, D5 PTC16, D6 PTC9, D7 PTC5, D8 PTC1, D9 PTB18, D10 PTB10, D11 PTB8, E1 PTD15, E2 PTE2, E3 PTE1, E4 PTE0, E5 VDD, E6 VDD, E7 VDD, E8 PTB23, E9 PTB17, E10 PTB9, E11 PTB7, F1 USB0_DP, F2 USB0_DM, F3 PTE6, F4 PTE3, F5 VDDA, F6 VSSA, F7 VSS, F8 PTB22, F9 PTB21, F10 PTB20, F11 PTB6, G1 VOUT33, G2 VREGIN, G3 VSS, G4 PTE5, G5 VREFH, G6 VREFL, G7 VSS, G8 PTB3, G9 PTB2, G10 PTB1, G11 PTB0, H1 ADC0_DP1, H2 ADC0_DM1, H3 ADC0/CMP1/ADC0, H4 NC, H5 PTE24, H6 PTE26, H7 PTE4, H8 PTA1, H9 PTA3, H10 PTA17, H11 PTA29, J1 ADC1_DP1, J2 ADC1_DM1, J3 ADC1/CMP2/ADC0, J4 PTA11, J5 PTE25, J6 PTA0, J7 PTA2, J8 PTA4, J9 PTA10, J10 PTA16, J11 RESET_b, K1 ADC0_DP0/ADC1_DP3, K2 ADC0_DM0/ADC1_DM3, K3 NC, K4 DAC1/CMP0/CMP2/ADC1, K5 DAC0/CMP1/ADC0, K6 VBAT, K7 PTA5, K8 PTA12, K9 PTA14, K10 VSS, K11 PTA19, L1 ADC1_DP0/ADC0_DP3, L2 ADC1_DM0/ADC0_DM3, L3 VREF/CMP1/CMP0/ADC1, L4 XTAL32, L5 EXTAL32, L6 VSS, L7 RTC_WAKEUP_B, L8 PTA13, L9 PTA15, L10 VDD, L11 PTA18

## MK64P144LQFP
designator MK?
footprint LQFP-144
pins: 1 PTE0, 2 PTE1, 3 PTE2, 4 PTE3, 5 VDD, 6 VSS, 7 PTE4, 8 PTE5, 9 PTE6, 10 PTE7, 11 PTE8, 12 PTE9, 13 PTE10, 14 PTE11, 15 PTE12, 16 VDD, 17 VSS, 18 VSS, 19 USB0_DP, 20 USB0_DM, 21 VOUT33, 22 VREGIN, 23 PGA2_DP, 24 PGA2_DM, 25 PGA3_DP, 26 PGA3_DM, 27 PGA0_DP, 28 PGA0_DM, 29 PGA1_DP, 30 PGA1_DM, 31 VDDA, 32 VREFH, 33 VREFL, 34 VSSA, 35 ADC1_SE16, 36 ADC0_SE16, 37 VREF_OUT/ADC1_SE18, 38 DAC0/ADC0_SE23, 39 DAC1/ADC1_SE23, 40 XTAL, 41 EXTAL, 42 VBAT, 43 VDD, 44 VSS, 45 PTE24, 46 PTE25, 47 PTE26, 48 PTE27, 49 PTE28, 50 PTA0/TJAG_TCK, 51 PTA1/TJAG_TDI, 52 PTA2/TJAG_TDO, 53 PTA3/TJAG_TMS, 54 PTA4/EZP_CS, 55 PTA5, 56 VDD, 57 VSS, 58 PTA6, 59 PTA7, 60 PTA8, 61 PTA9, 62 PTA10, 63 PTA11, 64 PTA12, 65 PTA13, 66 PTA14/UART0_TX, 67 PTA15/UART0_RX, 68 PTA16, 69 PTA17, 70 VDD, 71 VSS, 72 PTA18/EXTAL, 73 PTA19, 74 REST_b, 75 PTA24, 76 PTA25, 77 PTA26, 78 PTA27, 79 PTA28, 80 PTA29, 81 PTB0, 82 PTB1, 83 PTB2, 84 PTB3, 85 PTB4, 86 PTB5, 87 PTB6, 88 PTB7, 89 PTB8, 90 PTB9, 91 PTB10, 92 PTB11, 93 VSS, 94 VDD, 95 PTB16, 96 PTB17, 97 PTB18, 98 PTB19, 99 PTB20, 100 PTB21, 101 PTB22, 102 PTB23, 103 PTC0, 104 PTC1, 105 PTC2, 106 PTC3, 107 VSS, 108 VDD, 109 PTC4, 110 PTC5, 111 PTC6, 112 PTC7, 113 PTC8, 114 PTC9, 115 PTC10, 116 PTC11, 117 PTC12, 118 PTC13, 119 PTC14, 120 PTC15, 121 VSS, 122 VDD, 123 PTC16, 124 PTC17, 125 PTC18, 126 PTC19, 127 PTD0, 128 PTD1, 129 PTD2, 130 PTD3, 131 PTD4, 132 PTD5, 133 PTD6, 134 VSS, 135 VDD, 136 PTD7, 137 PTD8, 138 PTD9, 139 PTD10, 140 PTD11, 141 PTD12, 142 PTD13, 143 PTD14, 144 PTD15

## MKL25Z
designator MCU*
footprint KL25ZP80
pins: 1 PTE0, 2 PTE1, 3 PTE2, 4 PTE3, 5 PTE4, 6 PTE5, 7 VDD, 8 VSS, 9 USB0_DP, 10 USB0_DM, 11 VOUT33, 12 VREGIN, 13 PTE20, 14 PTE21, 15 PTE22, 16 PTE23, 17 VDDA, 18 VREFH, 19 VREFL, 20 VSSA, 21 PTE29, 22 PTE30, 23 PTE31, 24 PTE24, 25 PTE25, 26 PTA0, 27 PTA1, 28 PTA2, 29 PTA3, 30 PTA4, 31 PTA5, 32 PTA12, 33 PTA13, 34 PTA14, 35 PTA15, 36 PTA16, 37 PTA17, 38 VDD, 39 VSS, 40 PTA18, 41 PTA19, 42 PTA20, 43 PTB0, 44 PTB1, 45 PTB2, 46 PTB3, 47 PTB8, 48 PTB9, 49 PTB10, 50 PTB11, 51 PTB16, 52 PTB17, 53 PTB18, 54 PTB19, 55 PTC0, 56 PTC1, 57 PTC2, 58 PTC3, 59 VSS, 60 VDD, 61 PTC4, 62 PTC5, 63 PTC6, 64 PTC7, 65 PTC8, 66 PTC9, 67 PTC10, 68 PTC11, 69 PTC12, 70 PTC13, 71 PTC16, 72 PTC17, 73 PTD0, 74 PTD1, 75 PTD2, 76 PTD3, 77 PTD4, 78 PTD5, 79 PTD6, 80 PTD7
text: KL25ZP80

## MOSFET-N
designator Q?  (value not drawn)
N-Channel MOSFET; PackageDocument: 1995/1996; Published: 8-Jun-2000; LatestRevisionDate: 17-Jul-2002; LatestRevisionNote: Re-released for DXP Platform.; PackageReference: E3; Publisher: Altium Limited
simulation model NMOS (MOSFET-N)
footprint mos
pins: 1 G, 2 D, 3 S

## MRF24J40
designator U?
pins: 1 GND, 2 /RESET, 3 WAKE, 4 INT, 5 SDI, 6 SCK, 7 SDO, 8 /CS, 9 NC, 10 VIN, 11 GND, 12 GND

## N25Q032A
designator U?
footprint QFN127P500X600X100_HS-9N (QFN, 8-Leads, Body 5.00x6.00mm, Pitch 1.27mm, Thermal Pad 4.00x3.40mm, IPC Medium Density)
pins: 1 /CS, 2 SDO/DQ1, 3 /WP/DQ2, 4 VSS, 5 SDI/DQ0, 6 SCK, 7 /HLOD/DQ3, 8 VCC, 9 PAD

## PCF8574
designator PCF?
footprint PCF8574
pins: 1 A0, 2 A1, 3 A2, 4 P0, 5 P1, 6 P2, 7 P3, 8 GND, 9 P4, 10 P5, 11 P6, 12 P7, 13 INT, 14 SCL, 15 SDA, 16 VCC

## PCF8591
designator U?
footprint SOIC127P600-8N PCF8591
pins: 1 AIN0, 2 AIN1, 3 AIN2, 4 AIN3, 5 A0, 6 A1, 7 A2, 8 VSS, 9 SDA, 10 SCL, 11 OSC, 12 EXT, 13 AGND, 14 VREF, 15 AOUT, 16 VDD

## PCM2704CDB
designator U?
footprint SOP65P780X200-28N (PCM2704)
pins: 1 XTO, 2 CK, 3 DT, 4 PSEL, 5 DOUT, 6 DGND, 7 VDD, 8 D-, 9 D+, 10 VBUS, 11 ZGND, 12 AGNDL, 13 VCCL, 14 VoutL, 15 VoutR, 16 VCCR, 17 AGNDR, 18 VCOM, 19 PGND, 20 VCCP, 21 HOST, 22 HID0/MS, 23 HID1/MC, 24 HID2/MD, 25 TEST1, 26 TEST0, 27 /SSPND, 28 XTI
text: PCM2704

## PIN
designator PIN*  (value not drawn)
footprint PIN
pins: 1 PIN

## res*4
designator R?
footprint 0402*4
footprint 0804
footprint 0603*4
pins: 1, 2, 3, 4, 5, 6, 7, 8

## respberry-HAT
designator HAT?
footprint SMT-HAT
footprint RESPBERRY-HAT
pins: 1 3.3V, 2 5V, 3 SDA.1, 4 5V, 5 SCL.1, 6 GND, 7 GPIO.7, 8 TXD, 9 GND, 10 RXD, 11 GPIO.0, 12 GPIO.1, 13 GPIO.2, 14 GND, 15 GPIO.3, 16 GPIO.4, 17 3.3V, 18 GPIO.5, 19 MOSI, 20 GND, 21 MISO, 22 GPIO.6, 23 SCLK, 24 CE0, 25 GND, 26 CE1, 27 SDA.0, 28 SCL.0, 29 GPIO.21, 30 GND, 31 GPIO.22, 32 GPIO.26, 33 GPIO.23, 34 GND, 35 GPIO.24, 36 GPIO.27, 37 GPIO.25, 38 GPIO.28, 39 GND, 40 GPIO.29

## RGB_LED1206
designator LED?
footprint RGB
pins: 1 B, 2 +, 3 R, 4 G

## rotate_sw
designator SW?
footprint rotate_sw
pins: 1 _8, 2 _4, 3 _2, 4 _1, 5 COM

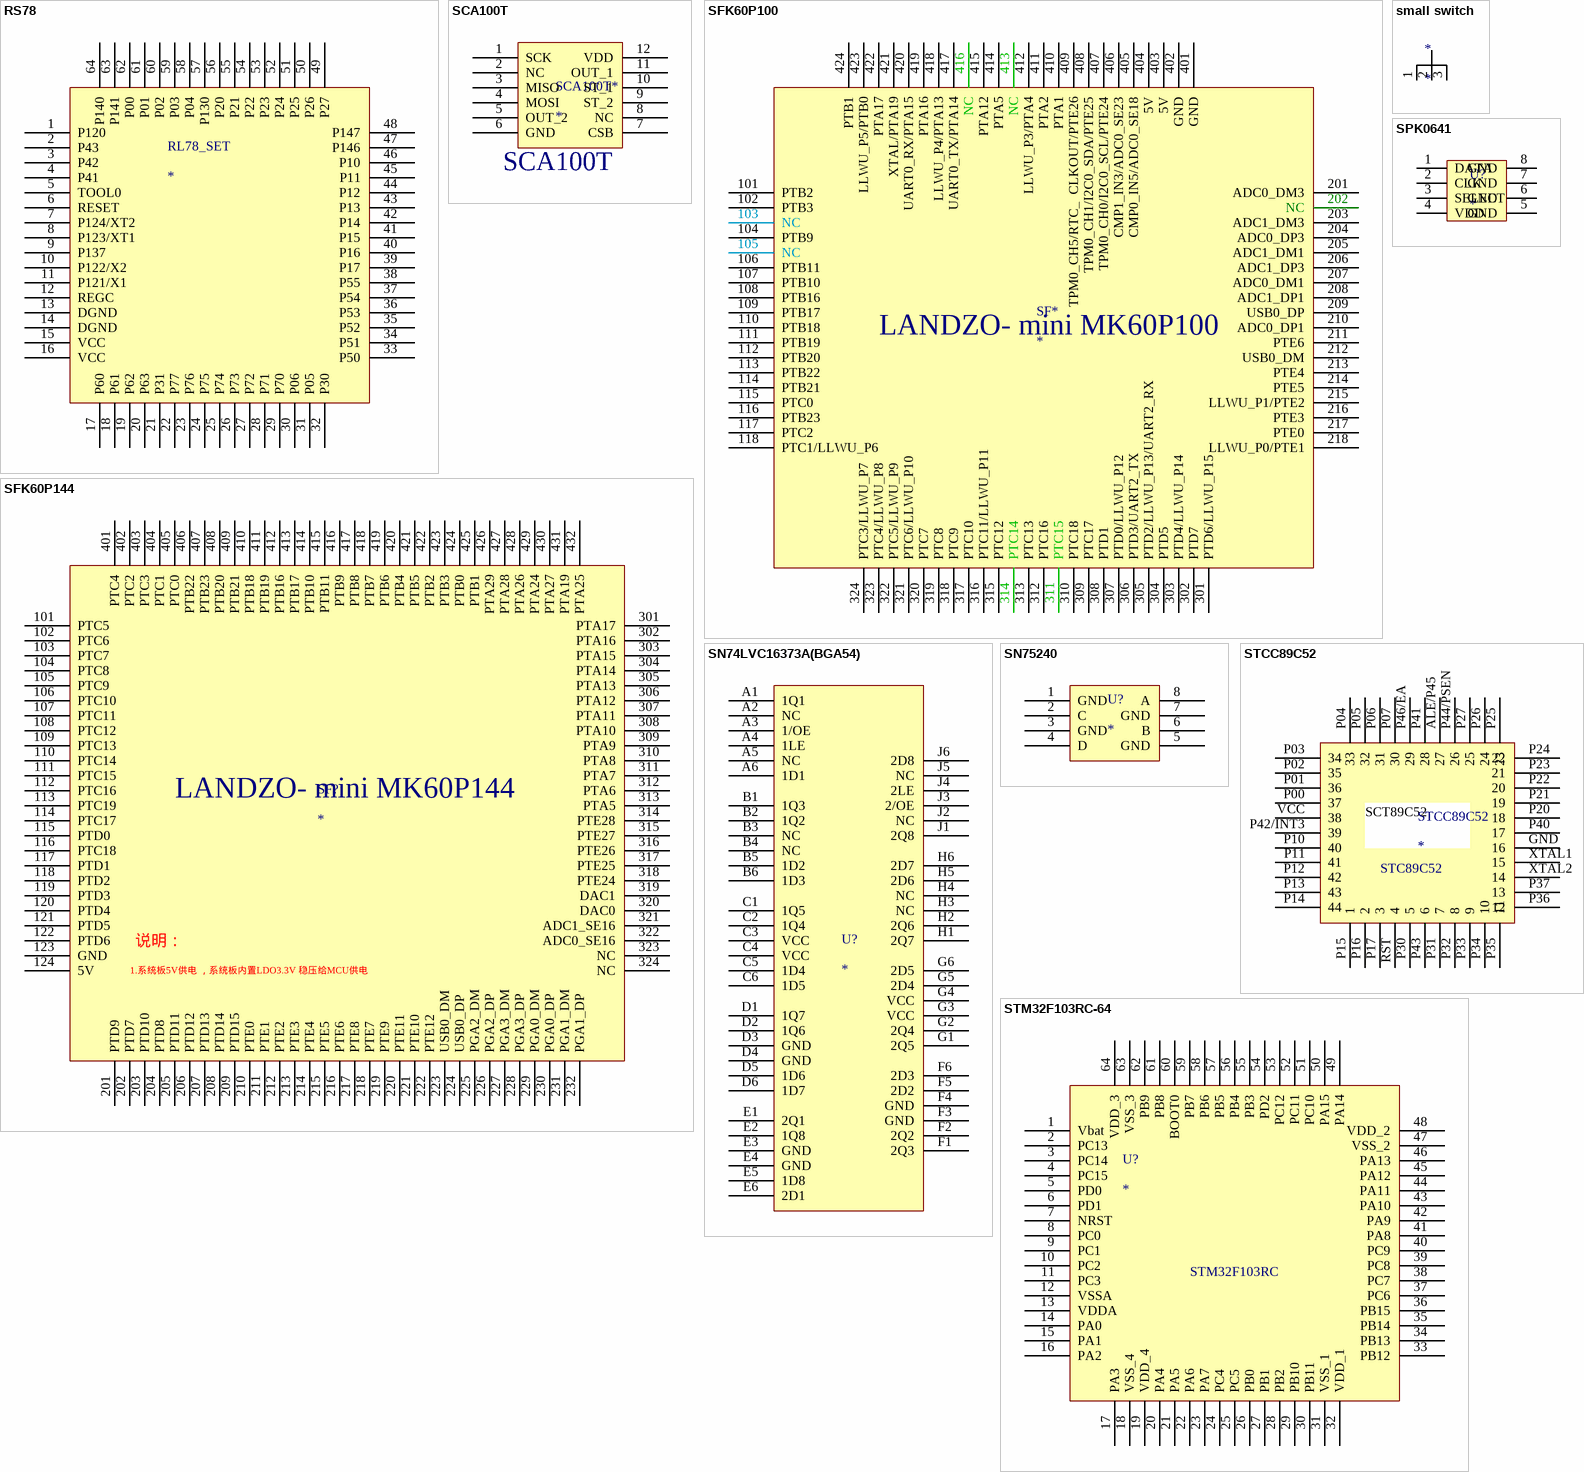
[diagram p5: symbols RS78 to STM32F103RC-64]

## RS78
designator RL78_SET
footprint RL78_转接版
pins: 1 P120, 2 P43, 3 P42, 4 P41, 5 TOOL0, 6 RESET, 7 P124/XT2, 8 P123/XT1, 9 P137, 10 P122/X2, 11 P121/X1, 12 REGC, 13 DGND, 14 DGND, 15 VCC, 16 VCC, 17 P60, 18 P61, 19 P62, 20 P63, 21 P31, 22 P77, 23 P76, 24 P75, 25 P74, 26 P73, 27 P72, 28 P71, 29 P70, 30 P06, 31 P05, 32 P30, 33 P50, 34 P51, 35 P52, 36 P53, 37 P54, 38 P55, 39 P17, 40 P16, 41 P15, 42 P14, 43 P13, 44 P12, 45 P11, 46 P10, 47 P146, 48 P147, 49 P27, 50 P26, 51 P25, 52 P24, 53 P23, 54 P22, 55 P21, 56 P20, 57 P130, 58 P04, 59 P03, 60 P02, 61 P01, 62 P00, 63 P141, 64 P140

## SCA100T
designator SCA100T*
footprint SCA100T
pins: 1 SCK, 2 NC, 3 MISO, 4 MOSI, 5 OUT_2, 6 GND, 7 CSB, 8 NC, 9 ST_2, 10 ST_1, 11 OUT_1, 12 VDD

## SFK60P100
designator SF*
footprint SFK60P100
pins: 101 PTB2, 102 PTB3, 103 NC, 104 PTB9, 105 NC, 106 PTB11 (power), 107 PTB10 (power), 108 PTB16, 109 PTB17, 110 PTB18, 111 PTB19, 112 PTB20, 113 PTB22, 114 PTB21, 115 PTC0, 116 PTB23, 117 PTC2, 118 PTC1/LLWU_P6, 201 ADC0_DM3, 202 NC, 203 ADC1_DM3, 204 ADC0_DP3, 205 ADC1_DM1, 206 ADC1_DP3, 207 ADC0_DM1, 208 ADC1_DP1, 209 USB0_DP, 210 ADC0_DP1, 211 PTE6, 212 USB0_DM, 213 PTE4, 214 PTE5, 215 LLWU_P1/PTE2, 216 PTE3, 217 PTE0, 218 LLWU_P0/PTE1, 301 PTD6/LLWU_P15, 302 PTD7, 303 PTD4/LLWU_P14, 304 PTD5, 305 PTD2/LLWU_P13/UART2_RX, 306 PTD3/UART2_TX, 307 PTD0/LLWU_P12, 308 PTD1, 309 PTC17, 310 PTC18, 311 PTC15, 312 PTC16, 313 PTC13, 314 PTC14, 315 PTC12, 316 PTC11/LLWU_P11, 317 PTC10, 318 PTC9, 319 PTC8, 320 PTC7, 321 PTC6/LLWU_P10, 322 PTC5/LLWU_P9, 323 PTC4/LLWU_P8, 324 PTC3/LLWU_P7, 401 GND (power), 402 GND (power), 403 5V (power), 404 5V (power), 405 CMP0_IN5/ADC0_SE18, 406 CMP1_IN3/ADC0_SE23, 407 TPM0_CH0/I2C0_SCL/PTE24, 408 TPM0_CH1/I2C0_SDA/PTE25, 409 TPM0_CH5/RTC_  CLKOUT/PTE26, 410 PTA1, 411 PTA2, 412 LLWU_P3/PTA4, 413 NC (power), 414 PTA5, 415 PTA12, 416 NC (power), 417 UART0_TX/PTA14, 418 LLWU_P4/PTA13, 419 PTA16, 420 UART0_RX/PTA15, 421 XTAL/PTA19, 422 PTA17, 423 LLWU_P5/PTB0, 424 PTB1
text: MK60; LANDZO- mini MK60P100

## SFK60P144
designator SF?
footprint SF_K60P144
pins: 101 PTC5, 102 PTC6, 103 PTC7, 104 PTC8, 105 PTC9, 106 PTC10, 107 PTC11, 108 PTC12, 109 PTC13, 110 PTC14, 111 PTC15, 112 PTC16, 113 PTC19, 114 PTC17, 115 PTD0, 116 PTC18, 117 PTD1, 118 PTD2, 119 PTD3, 120 PTD4, 121 PTD5, 122 PTD6, 123 GND, 124 5V, 201 PTD9, 202 PTD7, 203 PTD10, 204 PTD8, 205 PTD11, 206 PTD12, 207 PTD13, 208 PTD14, 209 PTD15, 210 PTE0, 211 PTE1, 212 PTE2, 213 PTE3, 214 PTE4, 215 PTE5, 216 PTE6, 217 PTE8, 218 PTE7, 219 PTE9, 220 PTE11, 221 PTE10, 222 PTE12, 223 USB0_DM, 224 USB0_DP, 225 PGA2_DM, 226 PGA2_DP, 227 PGA3_DM, 228 PGA3_DP, 229 PGA0_DM, 230 PGA0_DP, 231 PGA1_DM, 232 PGA1_DP, 301 PTA17, 302 PTA16, 303 PTA15, 304 PTA14, 305 PTA13, 306 PTA12, 307 PTA11, 308 PTA10, 309 PTA9, 310 PTA8, 311 PTA7, 312 PTA6, 313 PTA5, 314 PTE28, 315 PTE27, 316 PTE26, 317 PTE25, 318 PTE24, 319 DAC1, 320 DAC0, 321 ADC1_SE16, 322 ADC0_SE16, 323 NC, 324 NC, 401 PTC4, 402 PTC2, 403 PTC3, 404 PTC1, 405 PTC0, 406 PTB22, 407 PTB23, 408 PTB20, 409 PTB21, 410 PTB18, 411 PTB19, 412 PTB16, 413 PTB17, 414 PTB10, 415 PTB11, 416 PTB9, 417 PTB8, 418 PTB7, 419 PTB6, 420 PTB4, 421 PTB5, 422 PTB2, 423 PTB3, 424 PTB0, 425 PTB1, 426 PTA29, 427 PTA28, 428 PTA26, 429 PTA24, 430 PTA27, 431 PTA19, 432 PTA25
text: LANDZO- mini MK60P144; 说明：; 1.系统板5V供电 ，系统板内置LDO3.3V 稳压给MCU供电

## small switch
designator *
footprint small switch
pins: 1, 2, 3

## SN74LVC16373A(BGA54)
designator U?
footprint BGA54C80P6X9_550X800X120 (BGA, 54-Leads, Body 5.50x8.00mmx1.20mm, Pitch 0.80mm)
pins: A1 1Q1, A2 NC, A3 1/OE, A4 1LE, A5 NC, A6 1D1, B1 1Q3, B2 1Q2, B3 NC, B4 NC, B5 1D2, B6 1D3, C1 1Q5, C2 1Q4, C3 VCC, C4 VCC, C5 1D4, C6 1D5, D1 1Q7, D2 1Q6, D3 GND, D4 GND, D5 1D6, D6 1D7, E1 2Q1, E2 1Q8, E3 GND, E4 GND, E5 1D8, E6 2D1, F1 2Q3, F2 2Q2, F3 GND, F4 GND, F5 2D2, F6 2D3, G1 2Q5, G2 2Q4, G3 VCC, G4 VCC, G5 2D4, G6 2D5, H1 2Q7, H2 2Q6, H3 NC, H4 NC, H5 2D6, H6 2D7, J1 2Q8, J2 NC, J3 2/OE, J4 2LE, J5 NC, J6 2D8

## SN75240
designator U?
footprint SOP127P600-8N (SN75240)
pins: 1 GND, 2 C, 3 GND, 4 D, 5 GND, 6 B, 7 GND, 8 A

## SPK0641
designator U?
footprint SPK0641HT (1)
pins: 1 DATA, 2 CLK, 3 SELECT, 4 VDD, 5 GND, 6 GND, 7 GND, 8 GND

## STCC89C52
designator STCC89C52
footprint 89c52（2）; pin to pad ALE/P45>27 GND>16 P00>37 P01>36 P02>35 P03>34 P04>33 P05>32 P06>31 P07>30 P10>40 P11>41 P12>42 P13>43 P14>44 P15>1 P16>2 P17>3 P20>18 P21>19 P22>20 P23>21 P24>22 P25>23 P26>24 P27>25 P30>5 P31>7 P32>8 P33>9 P34>10 P35>11 P36>12 P37>13 P40>17 P41>28 P42/INT3>39 P43>6 P44/PSEN>26 P46/EA>29 RST>4 VCC>38 XTAL1>15 XTAL2>14
footprint stc89c52; pin to pad ALE/P45>27 GND>16 P00>37 P01>36 P02>35 P03>34 P04>33 P05>32 P06>31 P07>30 P10>40 P11>41 P12>42 P13>43 P14>44 P15>1 P16>2 P17>3 P20>18 P21>19 P22>20 P23>21 P24>22 P25>23 P26>24 P27>25 P30>5 P31>7 P32>8 P33>9 P34>10 P35>11 P36>12 P37>13 P40>17 P41>28 P42/INT3>39 P43>6 P44/PSEN>26 P46/EA>29 RST>4 VCC>38 XTAL1>15 XTAL2>14
pins: ALE/P45 27, GND 16, P00 37, P01 36, P02 35, P03 34, P04 33, P05 32, P06 31, P07 30, P10 40, P11 41, P12 42, P13 43, P14 44, P15 1, P16 2, P17 3, P20 18, P21 19, P22 20, P23 21, P24 22, P25 23, P26 24, P27 25, P30 5, P31 7, P32 8, P33 9, P34 10, P35 11, P36 12, P37 13, P40 17, P41 28, P42/INT3 39, P43 6, P44/PSEN 26, P46/EA 29, RST 4, VCC 38, XTAL1 15, XTAL2 14
text: SCT89C52 /; STC89C52

## STM32F103RC-64
designator U?
footprint LQFP-64 (TSQFP, 64-Leads, K10P64M72)
pins: 1 Vbat, 2 PC13, 3 PC14, 4 PC15, 5 PD0, 6 PD1, 7 NRST, 8 PC0, 9 PC1, 10 PC2, 11 PC3, 12 VSSA, 13 VDDA, 14 PA0, 15 PA1, 16 PA2, 17 PA3, 18 VSS_4, 19 VDD_4, 20 PA4, 21 PA5, 22 PA6, 23 PA7, 24 PC4, 25 PC5, 26 PB0, 27 PB1, 28 PB2, 29 PB10, 30 PB11, 31 VSS_1, 32 VDD_1, 33 PB12, 34 PB13, 35 PB14, 36 PB15, 37 PC6, 38 PC7, 39 PC8, 40 PC9, 41 PA8, 42 PA9, 43 PA10, 44 PA11, 45 PA12, 46 PA13, 47 VSS_2, 48 VDD_2, 49 PA14, 50 PA15, 51 PC10, 52 PC11, 53 PC12, 54 PD2, 55 PB3, 56 PB4, 57 PB5, 58 PB6, 59 PB7, 60 BOOT0, 61 PB8, 62 PB9, 63 VSS_3, 64 VDD_3
text: STM32F103RC

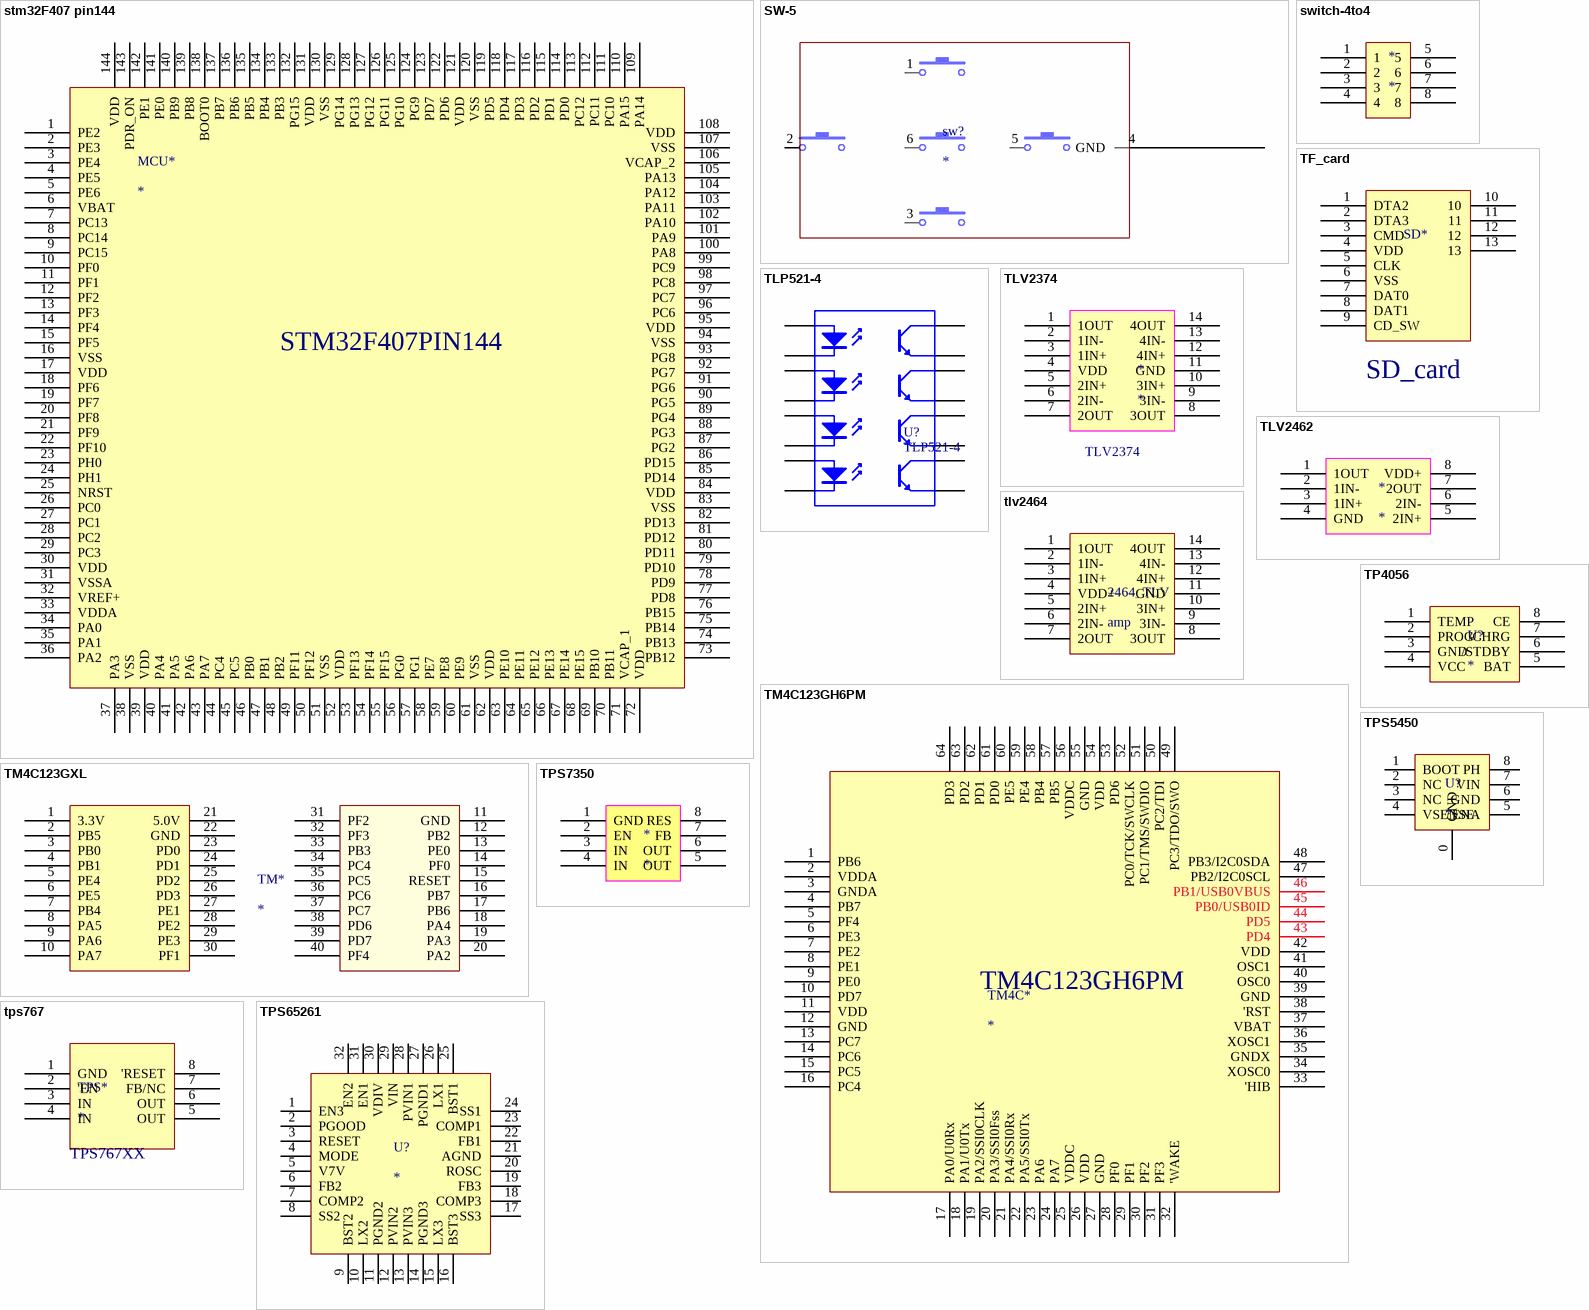
[diagram p6: symbols stm32F407 pin144 to TPS65261]

## stm32F407 pin144
designator MCU*
footprint TSQFP50P2200X2200X160-144N (TSQFP, 144-Leads, Body 20.00x20.00mm, Pitch 0.50mm, IPC Medium Density)
pins: 1 PE2, 2 PE3, 3 PE4, 4 PE5, 5 PE6, 6 VBAT, 7 PC13, 8 PC14, 9 PC15, 10 PF0, 11 PF1, 12 PF2, 13 PF3, 14 PF4, 15 PF5, 16 VSS, 17 VDD, 18 PF6, 19 PF7, 20 PF8, 21 PF9, 22 PF10, 23 PH0, 24 PH1, 25 NRST, 26 PC0, 27 PC1, 28 PC2, 29 PC3, 30 VDD, 31 VSSA, 32 VREF+, 33 VDDA, 34 PA0, 35 PA1, 36 PA2, 37 PA3, 38 VSS, 39 VDD, 40 PA4, 41 PA5, 42 PA6, 43 PA7, 44 PC4, 45 PC5, 46 PB0, 47 PB1, 48 PB2, 49 PF11, 50 PF12, 51 VSS, 52 VDD, 53 PF13, 54 PF14, 55 PF15, 56 PG0, 57 PG1, 58 PE7, 59 PE8, 60 PE9, 61 VSS, 62 VDD, 63 PE10, 64 PE11, 65 PE12, 66 PE13, 67 PE14, 68 PE15, 69 PB10, 70 PB11, 71 VCAP_1, 72 VDD, 73 PB12, 74 PB13, 75 PB14, 76 PB15, 77 PD8, 78 PD9, 79 PD10, 80 PD11, 81 PD12, 82 PD13, 83 VSS, 84 VDD, 85 PD14, 86 PD15, 87 PG2, 88 PG3, 89 PG4, 90 PG5, 91 PG6, 92 PG7, 93 PG8, 94 VSS, 95 VDD, 96 PC6, 97 PC7, 98 PC8, 99 PC9, 100 PA8, 101 PA9, 102 PA10, 103 PA11, 104 PA12, 105 PA13, 106 VCAP_2, 107 VSS, 108 VDD, 109 PA14, 110 PA15, 111 PC10, 112 PC11, 113 PC12, 114 PD0, 115 PD1, 116 PD2, 117 PD3, 118 PD4, 119 PD5, 120 VSS, 121 VDD, 122 PD6, 123 PD7, 124 PG9, 125 PG10, 126 PG11, 127 PG12, 128 PG13, 129 PG14, 130 VSS, 131 VDD, 132 PG15, 133 PB3, 134 PB4, 135 PB5, 136 PB6, 137 PB7, 138 BOOT0, 139 PB8, 140 PB9, 141 PE0, 142 PE1, 143 PDR_ON, 144 VDD
text: STM32F407PIN144

## SW-5
designator sw?
footprint SW-5
pins: 1, 2, 3, 4 GND, 5, 6

## switch-4to4
designator *
footprint switch_4to4
pins: 1, 2, 3, 4, 5, 6, 7, 8

## TF_card
designator SD*  (value not drawn)
footprint SD_card
pins: 1 DTA2, 2 DTA3, 3 CMD, 4 VDD, 5 CLK, 6 VSS, 7 DAT0, 8 DAT1, 9 CD_SW, 10, 11, 12, 13
text: SD_card

## TLP521-4
designator U?
footprint DIP-16
pins: 1 "Anode", 2 "Cathode", 3 "Anode", 4 "Cathode", 5 "Anode", 6 "Cathode", 7 "Anode", 8 "Cathode", 9 "Emitter", 10 "Collector", 11 "Emitter", 12 "Collector", 13 "Emitter", 14 "Collector", 15 "Emitter", 16 "Collector"

## TLV2374
designator *
footprint TLV2374
pins: 1 1OUT, 2 1IN-, 3 1IN+, 4 VDD, 5 2IN+, 6 2IN-, 7 2OUT, 8 3OUT, 9 3IN-, 10 3IN+, 11 GND, 12 4IN+, 13 4IN-, 14 4OUT

## TLV2462
designator *
footprint TLV2462
pins: 1 1OUT, 2 1IN-, 3 1IN+, 4 GND, 5 2IN+, 6 2IN-, 7 2OUT, 8 VDD+

## tlv2464
designator 2464_TLV, comment amp
4amp
footprint SOIC127P600-8N
pins: 1 1OUT, 2 1IN-, 3 1IN+, 4 VDD+, 5 2IN+, 6 2IN-, 7 2OUT, 8 3OUT, 9 3IN-, 10 3IN+, 11 GND, 12 4IN+, 13 4IN-, 14 4OUT

## TM4C123GH6PM
designator TM4C*
footprint LQFP-64 (TSQFP, 64-Leads, K10P64M72)
pins: 1 PB6, 2 VDDA, 3 GNDA, 4 PB7, 5 PF4, 6 PE3, 7 PE2, 8 PE1, 9 PE0, 10 PD7, 11 VDD, 12 GND, 13 PC7, 14 PC6, 15 PC5, 16 PC4, 17 PA0/U0Rx, 18 PA1/U0Tx, 19 PA2/SSI0CLK, 20 PA3/SSI0Fss, 21 PA4/SSI0Rx, 22 PA5/SSI0Tx, 23 PA6, 24 PA7, 25 VDDC, 26 VDD, 27 GND, 28 PF0, 29 PF1, 30 PF2, 31 PF3, 32 'WAKE, 33 'HIB, 34 XOSC0, 35 GNDX, 36 XOSC1, 37 VBAT, 38 'RST, 39 GND, 40 OSC0, 41 OSC1, 42 VDD, 43 PD4, 44 PD5, 45 PB0/USB0ID, 46 PB1/USB0VBUS, 47 PB2/I2C0SCL, 48 PB3/I2C0SDA, 49 PC3/TDO/SWO, 50 PC2/TDI, 51 PC1/TMS/SWDIO, 52 PC0/TCK/SWCLK, 53 PD6, 54 VDD, 55 GND, 56 VDDC, 57 PB5, 58 PB4, 59 PE4, 60 PE5, 61 PD0, 62 PD1, 63 PD2, 64 PD3

## TM4C123GXL
designator TM*
footprint TM4C123GXL
pins: 1 3.3V, 2 PB5, 3 PB0, 4 PB1, 5 PE4, 6 PE5, 7 PB4, 8 PA5, 9 PA6, 10 PA7, 11 GND, 12 PB2, 13 PE0, 14 PF0, 15 RESET, 16 PB7, 17 PB6, 18 PA4, 19 PA3, 20 PA2, 21 5.0V, 22 GND, 23 PD0, 24 PD1, 25 PD2, 26 PD3, 27 PE1, 28 PE2, 29 PE3, 30 PF1, 31 PF2, 32 PF3, 33 PB3, 34 PC4, 35 PC5, 36 PC6, 37 PC7, 38 PD6, 39 PD7, 40 PF4

## TP4056
designator U?
footprint SOIC-8 (IOS1540\1)
pins: 1 TEMP, 2 PROG, 3 GND, 4 VCC, 5 BAT, 6 /STDBY, 7 /CHRG, 8 CE

## tps767
designator TPS*
footprint SOIC1-8N ACS712
pins: 1 GND, 2 'EN, 3 IN, 4 IN, 5 OUT, 6 OUT, 7 FB/NC, 8 'RESET
text: TPS767XX

## TPS5450
designator U?
footprint LC-SOP-8_EP_150mil (TPS5450)
pins: 0 GND, 1 BOOT, 2 NC, 3 NC, 4 VSENSE, 5 ENA, 6 GND, 7 VIN, 8 PH

## TPS7350
designator *
pins: 1 GND, 2 EN, 3 IN, 4 IN, 5 OUT, 6 OUT, 7 FB, 8 RES

## TPS65261
designator U?
footprint QFN50P500X500X100_HS-33N (QFN, 32-Leads, Body 5.00x5.00mm, Pitch 0.50mm, Thermal Pad 3.45x3.45mm, IPC Medium Density TPS65261)
pins: 1 EN3, 2 PGOOD, 3 RESET, 4 MODE, 5 V7V, 6 FB2, 7 COMP2, 8 SS2, 9 BST2, 10 LX2, 11 PGND2, 12 PVIN2, 13 PVIN3, 14 PGND3, 15 LX3, 16 BST3, 17 SS3, 18 COMP3, 19 FB3, 20 ROSC, 21 AGND, 22 FB1, 23 COMP1, 24 SS1, 25 BST1, 26 LX1, 27 PGND1, 28 PVIN1, 29 VIN, 30 VDIV, 31 EN1, 32 EN2

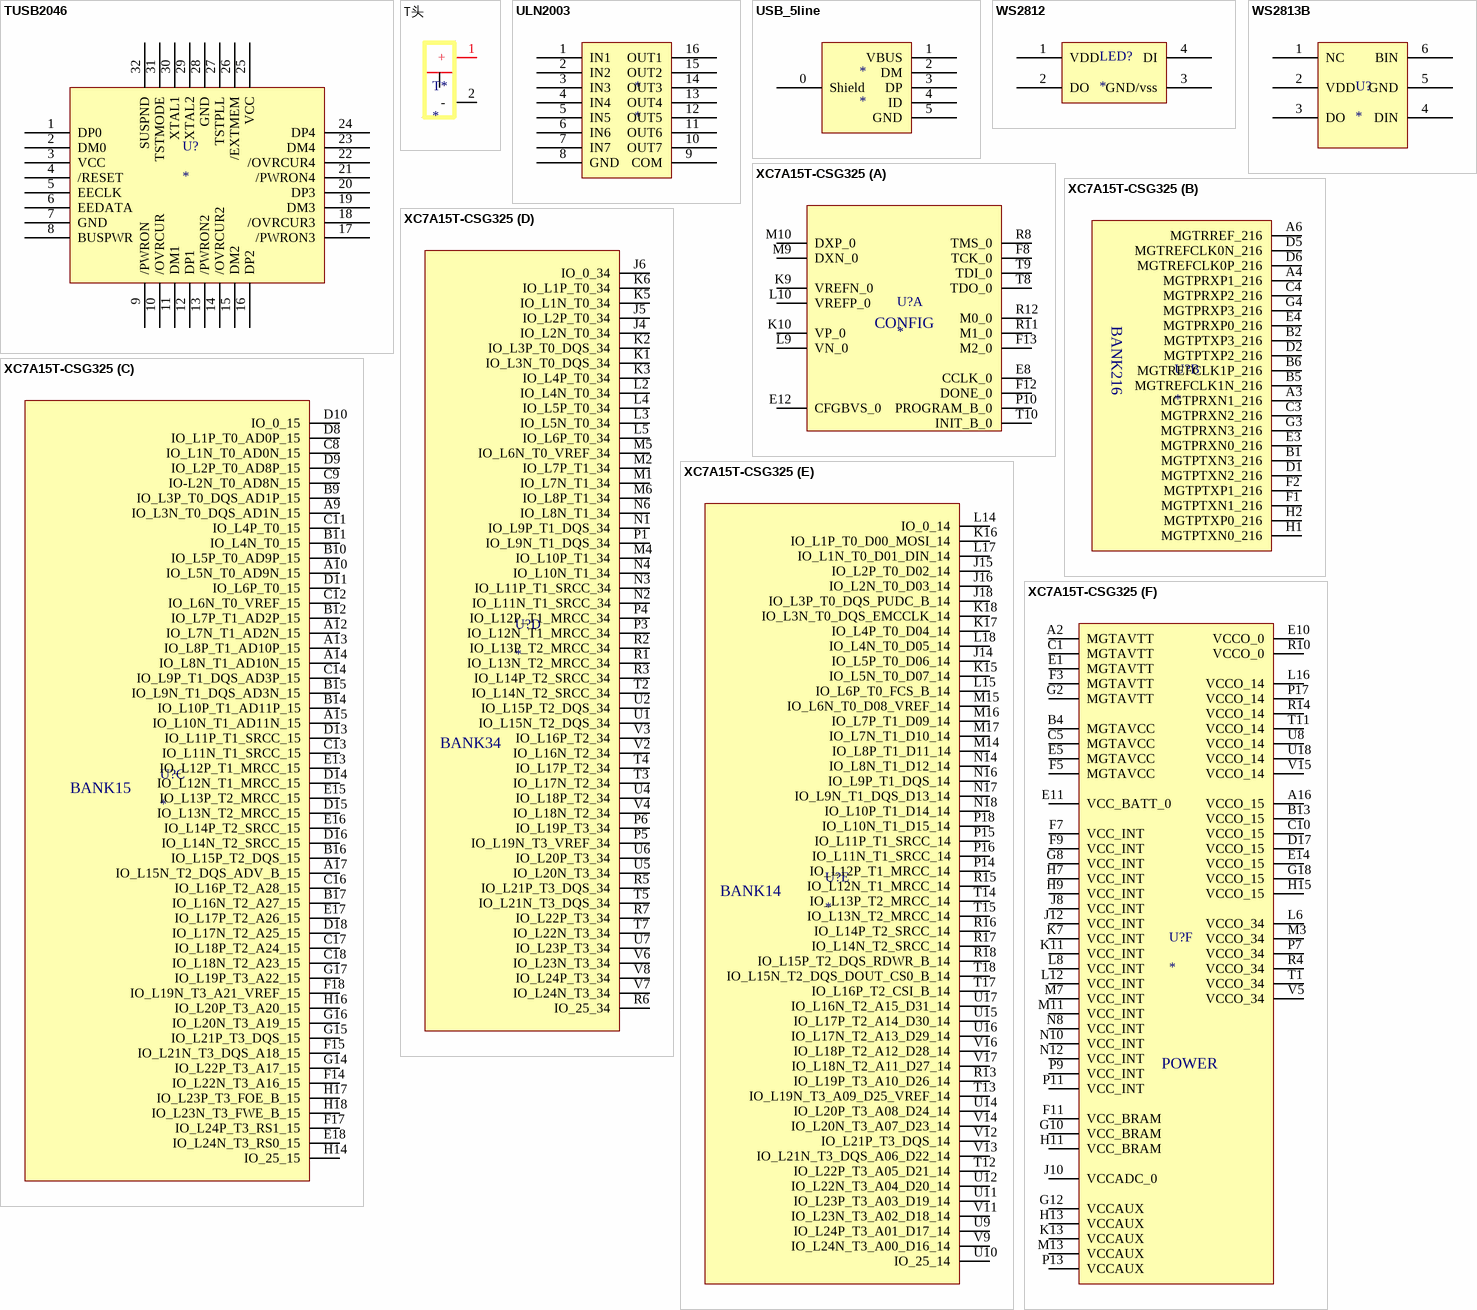
[diagram p7: symbols TUSB2046 to XC7A15T-CSG325]

## TUSB2046
designator U?
footprint QFN50P500X500X100_HS-33L (MTUSB2046)
pins: 1 DP0, 2 DM0, 3 VCC, 4 /RESET, 5 EECLK, 6 EEDATA, 7 GND, 8 BUSPWR, 9 /PWRON, 10 /OVRCUR, 11 DM1, 12 DP1, 13 /PWRON2, 14 /OVRCUR2, 15 DM2, 16 DP2, 17 /PWRON3, 18 /OVRCUR3, 19 DM3, 20 DP3, 21 /PWRON4, 22 /OVRCUR4, 23 DM4, 24 DP4, 25 VCC, 26 /EXTMEM, 27 TSTPLL, 28 GND, 29 XTAL2, 30 XTAL1, 31 TSTMODE, 32 SUSPND

## T头
designator T*
footprint T插
pins: 1 + (power), 2 -

## ULN2003
designator *
footprint uln2003V12 (SOIC, 16-Leads, Body 9.90x3.90mm, Pitch 1.27mm, IPC Medium Density)
pins: 1 IN1, 2 IN2, 3 IN3, 4 IN4, 5 IN5, 6 IN6, 7 IN7, 8 GND, 9 COM, 10 OUT7, 11 OUT6, 12 OUT5, 13 OUT4, 14 OUT3, 15 OUT2, 16 OUT1

## USB_5line
designator *
pins: 0 Shield, 1 VBUS, 2 DM, 3 DP, 4 ID, 5 GND

## WS2812
designator LED?
footprint 5050_4
pins: 1 VDD, 2 DO, 3 GND/vss, 4 DI

## WS2813B
designator U?
footprint 5050
pins: 1 NC, 2 VDD, 3 DO, 4 DIN, 5 GND, 6 BIN

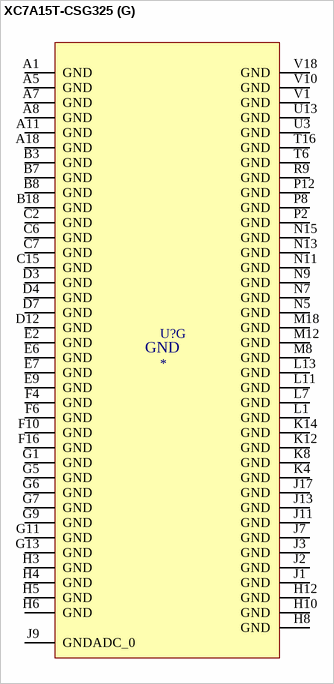
[diagram p8: symbol XC7A15T-CSG325]

## XC7A15T-CSG325
designator U?
Artix-7
footprint BGA100P9X9-81A (Artix-7 CSG325/324)
part A pins: E8 CCLK_0, E12 CFGBVS_0, F8 TCK_0, F12 DONE_0, F13 M2_0, K9 VREFN_0, K10 VP_0, L9 VN_0, L10 VREFP_0, M9 DXN_0, M10 DXP_0, P10 PROGRAM_B_0, R8 TMS_0, R11 M1_0, R12 M0_0, T8 TDO_0, T9 TDI_0, T10 INIT_B_0
part B pins: A3 MGTPRXN1_216, A4 MGTPRXP1_216, A6 MGTRREF_216, B1 MGTPTXN3_216, B2 MGTPTXP3_216, B5 MGTREFCLK1N_216, B6 MGTREFCLK1P_216, C3 MGTPRXN2_216, C4 MGTPRXP2_216, D1 MGTPTXN2_216, D2 MGTPTXP2_216, D5 MGTREFCLK0N_216, D6 MGTREFCLK0P_216, E3 MGTPRXN0_216, E4 MGTPRXP0_216, F1 MGTPTXN1_216, F2 MGTPTXP1_216, G3 MGTPRXN3_216, G4 MGTPRXP3_216, H1 MGTPTXN0_216, H2 MGTPTXP0_216
part C pins: A9 IO_L3N_T0_DQS_AD1N_15, A10 IO_L5N_T0_AD9N_15, A12 IO_L7N_T1_AD2N_15, A13 IO_L8P_T1_AD10P_15, A14 IO_L8N_T1_AD10N_15, A15 IO_L10N_T1_AD11N_15, A17 IO_L15N_T2_DQS_ADV_B_15, B9 IO_L3P_T0_DQS_AD1P_15, B10 IO_L5P_T0_AD9P_15, B11 IO_L4N_T0_15, B12 IO_L7P_T1_AD2P_15, B14 IO_L10P_T1_AD11P_15, B15 IO_L9N_T1_DQS_AD3N_15, B16 IO_L15P_T2_DQS_15, B17 IO_L16N_T2_A27_15, C8 IO_L1N_T0_AD0N_15, C9 IO-L2N_T0_AD8N_15, C11 IO_L4P_T0_15, C12 IO_L6N_T0_VREF_15, C13 IO_L11N_T1_SRCC_15, C14 IO_L9P_T1_DQS_AD3P_15, C16 IO_L16P_T2_A28_15, C17 IO_L18P_T2_A24_15, C18 IO_L18N_T2_A23_15, D8 IO_L1P_T0_AD0P_15, D9 IO_L2P_T0_AD8P_15, D10 IO_0_15, D11 IO_L6P_T0_15, D13 IO_L11P_T1_SRCC_15, D14 IO_L12N_T1_MRCC_15, D15 IO_L13N_T2_MRCC_15, D16 IO_L14N_T2_SRCC_15, D18 IO_L17N_T2_A25_15, E13 IO_L12P_T1_MRCC_15, E15 IO_L13P_T2_MRCC_15, E16 IO_L14P_T2_SRCC_15, E17 IO_L17P_T2_A26_15, E18 IO_L24N_T3_RS0_15, F14 IO_L22N_T3_A16_15, F15 IO_L21N_T3_DQS_A18_15, F17 IO_L24P_T3_RS1_15, F18 IO_L19N_T3_A21_VREF_15, G14 IO_L22P_T3_A17_15, G15 IO_L21P_T3_DQS_15, G16 IO_L20N_T3_A19_15, G17 IO_L19P_T3_A22_15, H14 IO_25_15, H16 IO_L20P_T3_A20_15, H17 IO_L23P_T3_FOE_B_15, H18 IO_L23N_T3_FWE_B_15
part D pins: J4 IO_L2N_T0_34, J5 IO_L2P_T0_34, J6 IO_0_34, K1 IO_L3N_T0_DQS_34, K2 IO_L3P_T0_DQS_34, K3 IO_L4P_T0_34, K5 IO_L1N_T0_34, K6 IO_L1P_T0_34, L2 IO_L4N_T0_34, L3 IO_L5N_T0_34, L4 IO_L5P_T0_34, L5 IO_L6P_T0_34, M1 IO_L7N_T1_34, M2 IO_L7P_T1_34, M4 IO_L10P_T1_34, M5 IO_L6N_T0_VREF_34, M6 IO_L8P_T1_34, N1 IO_L9P_T1_DQS_34, N2 IO_L11N_T1_SRCC_34, N3 IO_L11P_T1_SRCC_34, N4 IO_L10N_T1_34, N6 IO_L8N_T1_34, P1 IO_L9N_T1_DQS_34, P3 IO_L12N_T1_MRCC_34, P4 IO_L12P_T1_MRCC_34, P5 IO_L19N_T3_VREF_34, P6 IO_L19P_T3_34, R1 IO_L13N_T2_MRCC_34, R2 IO_L13P_T2_MRCC_34, R3 IO_L14P_T2_SRCC_34, R5 IO_L21P_T3_DQS_34, R6 IO_25_34, R7 IO_L22P_T3_34, T2 IO_L14N_T2_SRCC_34, T3 IO_L17N_T2_34, T4 IO_L17P_T2_34, T5 IO_L21N_T3_DQS_34, T7 IO_L22N_T3_34, U1 IO_L15N_T2_DQS_34, U2 IO_L15P_T2_DQS_34, U4 IO_L18P_T2_34, U5 IO_L20N_T3_34, U6 IO_L20P_T3_34, U7 IO_L23P_T3_34, V2 IO_L16N_T2_34, V3 IO_L16P_T2_34, V4 IO_L18N_T2_34, V6 IO_L23N_T3_34, V7 IO_L24N_T3_34, V8 IO_L24P_T3_34
part E pins: J14 IO_L5P_T0_D06_14, J15 IO_L2P_T0_D02_14, J16 IO_L2N_T0_D03_14, J18 IO_L3P_T0_DQS_PUDC_B_14, K15 IO_L5N_T0_D07_14, K16 IO_L1P_T0_D00_MOSI_14, K17 IO_L4P_T0_D04_14, K18 IO_L3N_T0_DQS_EMCCLK_14, L14 IO_0_14, L15 IO_L6P_T0_FCS_B_14, L17 IO_L1N_T0_D01_DIN_14, L18 IO_L4N_T0_D05_14, M14 IO_L8P_T1_D11_14, M15 IO_L6N_T0_D08_VREF_14, M16 IO_L7P_T1_D09_14, M17 IO_L7N_T1_D10_14, N14 IO_L8N_T1_D12_14, N16 IO_L9P_T1_DQS_14, N17 IO_L9N_T1_DQS_D13_14, N18 IO_L10P_T1_D14_14, P14 IO_L12P_T1_MRCC_14, P15 IO_L11P_T1_SRCC_14, P16 IO_L11N_T1_SRCC_14, P18 IO_L10N_T1_D15_14, R13 IO_L19P_T3_A10_D26_14, R15 IO_L12N_T1_MRCC_14, R16 IO_L14P_T2_SRCC_14, R17 IO_L14N_T2_SRCC_14, R18 IO_L15P_T2_DQS_RDWR_B_14, T12 IO_L22P_T3_A05_D21_14, T13 IO_L19N_T3_A09_D25_VREF_14, T14 IO_L13P_T2_MRCC_14, T15 IO_L13N_T2_MRCC_14, T17 IO_L16P_T2_CSI_B_14, T18 IO_L15N_T2_DQS_DOUT_CS0_B_14, U9 IO_L24P_T3_A01_D17_14, U10 IO_25_14, U11 IO_L23P_T3_A03_D19_14, U12 IO_L22N_T3_A04_D20_14, U14 IO_L20P_T3_A08_D24_14, U15 IO_L17P_T2_A14_D30_14, U16 IO_L17N_T2_A13_D29_14, U17 IO_L16N_T2_A15_D31_14, V9 IO_L24N_T3_A00_D16_14, V11 IO_L23N_T3_A02_D18_14, V12 IO_L21P_T3_DQS_14, V13 IO_L21N_T3_DQS_A06_D22_14, V14 IO_L20N_T3_A07_D23_14, V16 IO_L18P_T2_A12_D28_14, V17 IO_L18N_T2_A11_D27_14
part F pins: A2 MGTAVTT, A16 VCCO_15, B4 MGTAVCC, B13 VCCO_15, C1 MGTAVTT, C5 MGTAVCC, C10 VCCO_15, D17 VCCO_15, E1 MGTAVTT, E5 MGTAVCC, E10 VCCO_0, E11 VCC_BATT_0, E14 VCCO_15, F3 MGTAVTT, F5 MGTAVCC, F7 VCC_INT, F9 VCC_INT, F11 VCC_BRAM, G2 MGTAVTT, G8 VCC_INT, G10 VCC_BRAM, G12 VCCAUX, G18 VCCO_15, H7 VCC_INT, H9 VCC_INT, H11 VCC_BRAM, H13 VCCAUX, H15 VCCO_15, J8 VCC_INT, J10 VCCADC_0, J12 VCC_INT, K7 VCC_INT, K11 VCC_INT, K13 VCCAUX, L6 VCCO_34, L8 VCC_INT, L12 VCC_INT, L16 VCCO_14, M3 VCCO_34, M7 VCC_INT, M11 VCC_INT, M13 VCCAUX, N8 VCC_INT, N10 VCC_INT, N12 VCC_INT, P7 VCCO_34, P9 VCC_INT, P11 VCC_INT, P13 VCCAUX, P17 VCCO_14, R4 VCCO_34, R10 VCCO_0, R14 VCCO_14, T1 VCCO_34, T11 VCCO_14, U8 VCCO_14, U18 VCCO_14, V5 VCCO_34, V15 VCCO_14
part G pins: A1 GND, A5 GND, A7 GND, A8 GND, A11 GND, A18 GND, B3 GND, B7 GND, B8 GND, B18 GND, C2 GND, C6 GND, C7 GND, C15 GND, D3 GND, D4 GND, D7 GND, D12 GND, E2 GND, E6 GND, E7 GND, E9 GND, F4 GND, F6 GND, F10 GND, F16 GND, G1 GND, G5 GND, G6 GND, G7 GND, G9 GND, G11 GND, G13 GND, H3 GND, H4 GND, H5 GND, H6 GND, H8 GND, H10 GND, H12 GND, J1 GND, J2 GND, J3 GND, J7 GND, J9 GNDADC_0, J11 GND, J13 GND, J17 GND, K4 GND, K8 GND, K12 GND, K14 GND, L1 GND, L7 GND, L11 GND, L13 GND, M8 GND, M12 GND, M18 GND, N5 GND, N7 GND, N9 GND, N11 GND, N13 GND, N15 GND, P2 GND, P8 GND, P12 GND, R9 GND, T6 GND, T16 GND, U3 GND, U13 GND, V1 GND, V10 GND, V18 GND
part A text: CONFIG
part B text: BANK216
part C text: BANK15
part D text: BANK34
part E text: BANK14
part F text: POWER